# Altium schematic symbol library Schlib_Texas_Instruments.SchLib: 190 symbols (part 1 of 3)
Pins are listed as number, name and electrical type; pins without a type are passive.

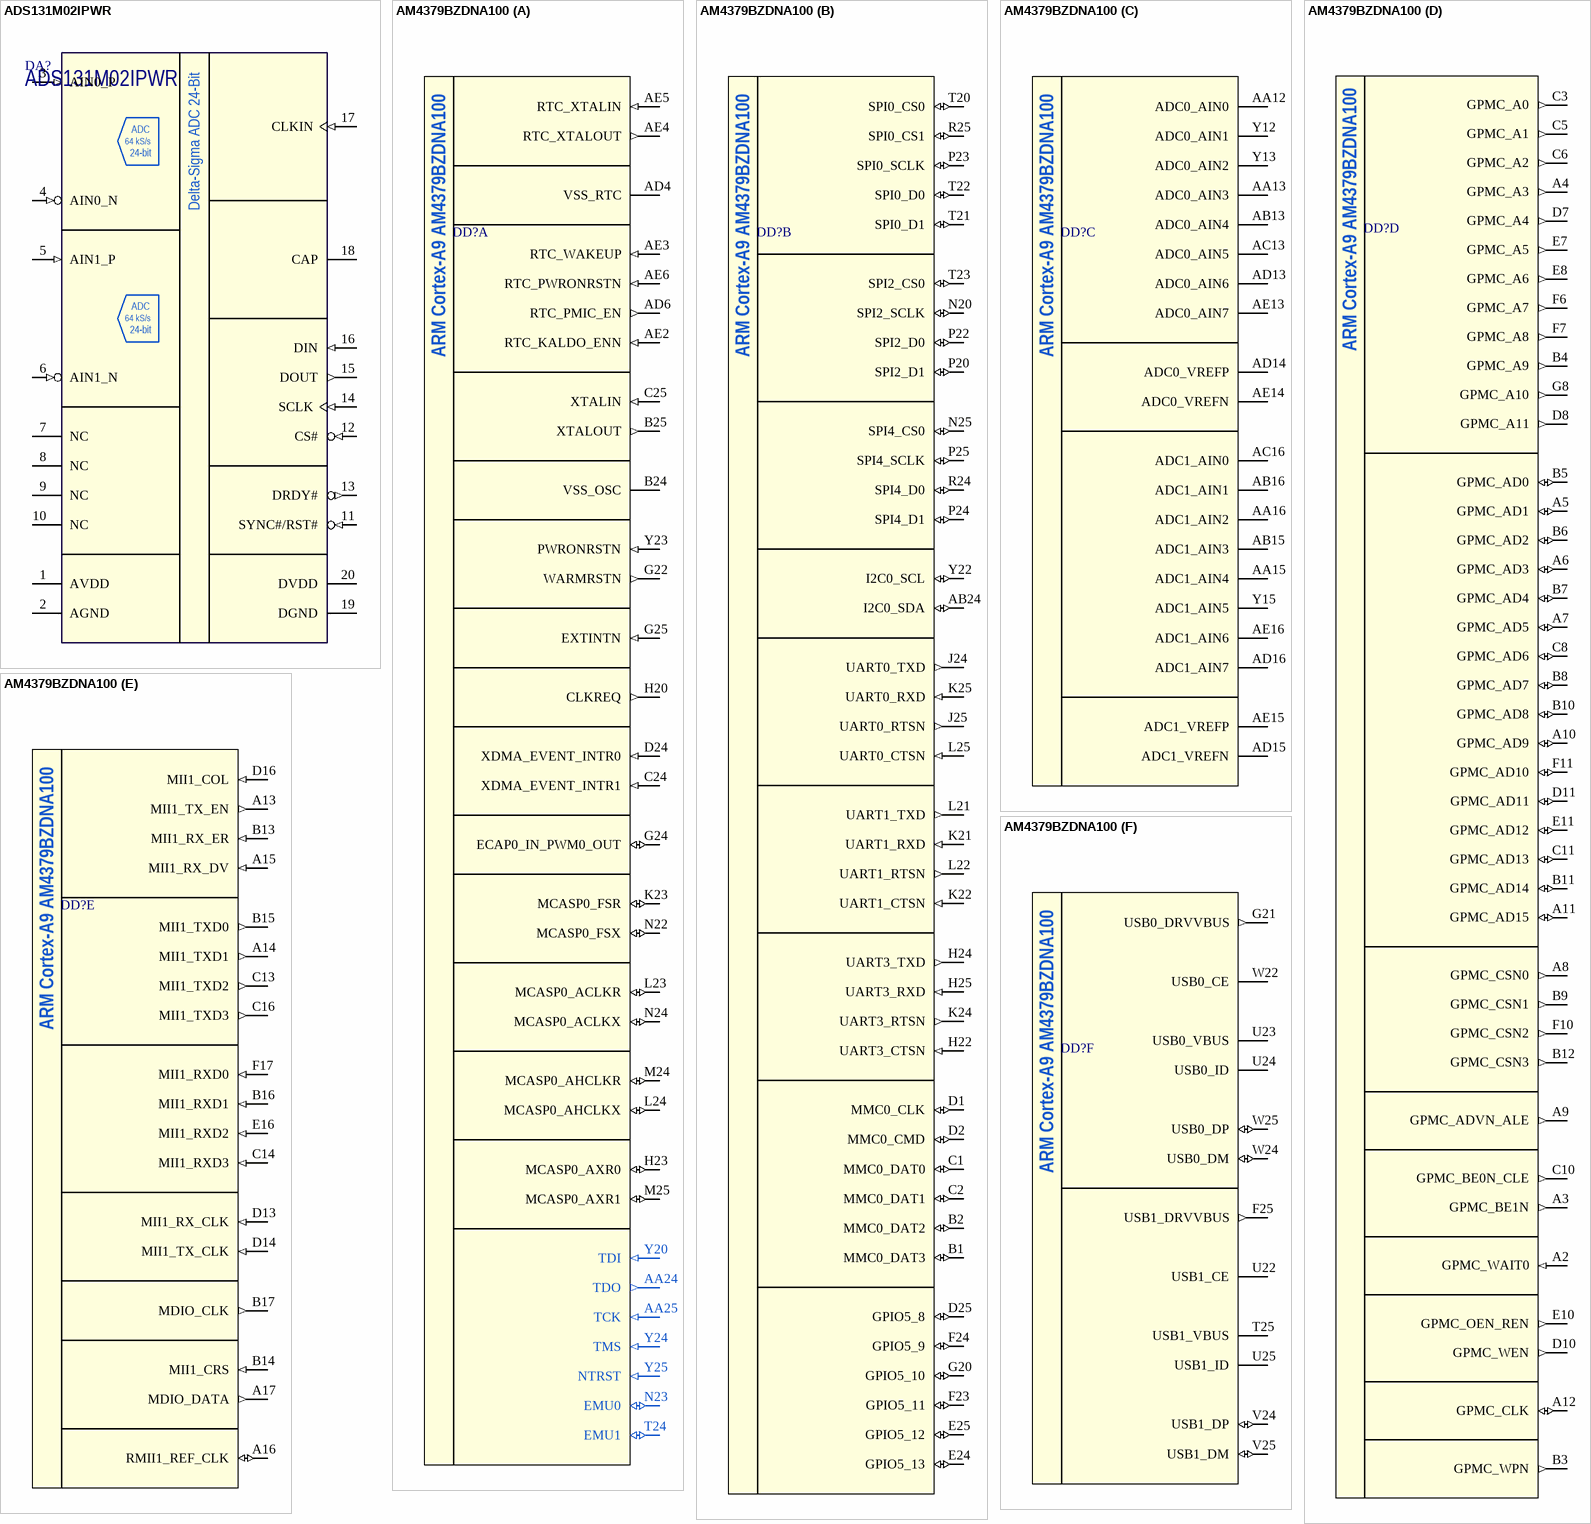
[diagram p0: symbols ADS131M02IPWR to AM4379BZDNA100]

## ADS131M02IPWR
designator DA?
2-Channel, Simultaneously-Sampling, 24-Bit, Delta-Sigma ADC; Manufacturer: Texas Instruments; Part Number: ADS131M02IPWR; Package: TSSOP-20
footprint TSSOP-20(ADS131) (TSOP, 20-Leads, Body 6.50x4.40mm, Pitch 0.65mm, IPC Medium Density)
pins: 1 AVDD (power), 2 AGND (power), 3 AIN0_P (in), 4 AIN0_N (in), 5 AIN1_P (in), 6 AIN1_N (in), 7 NC (hiz), 8 NC (hiz), 9 NC (hiz), 10 NC (hiz), 11 SYNC#/RST# (in), 12 CS# (in), 13 DRDY# (out), 14 SCLK (in), 15 DOUT (out), 16 DIN (in), 17 CLKIN (in), 18 CAP, 19 DGND (power), 20 DVDD (power)
text: ADC; 64 kS/s; Delta-Sigma ADC 24-Bit; 24-bit

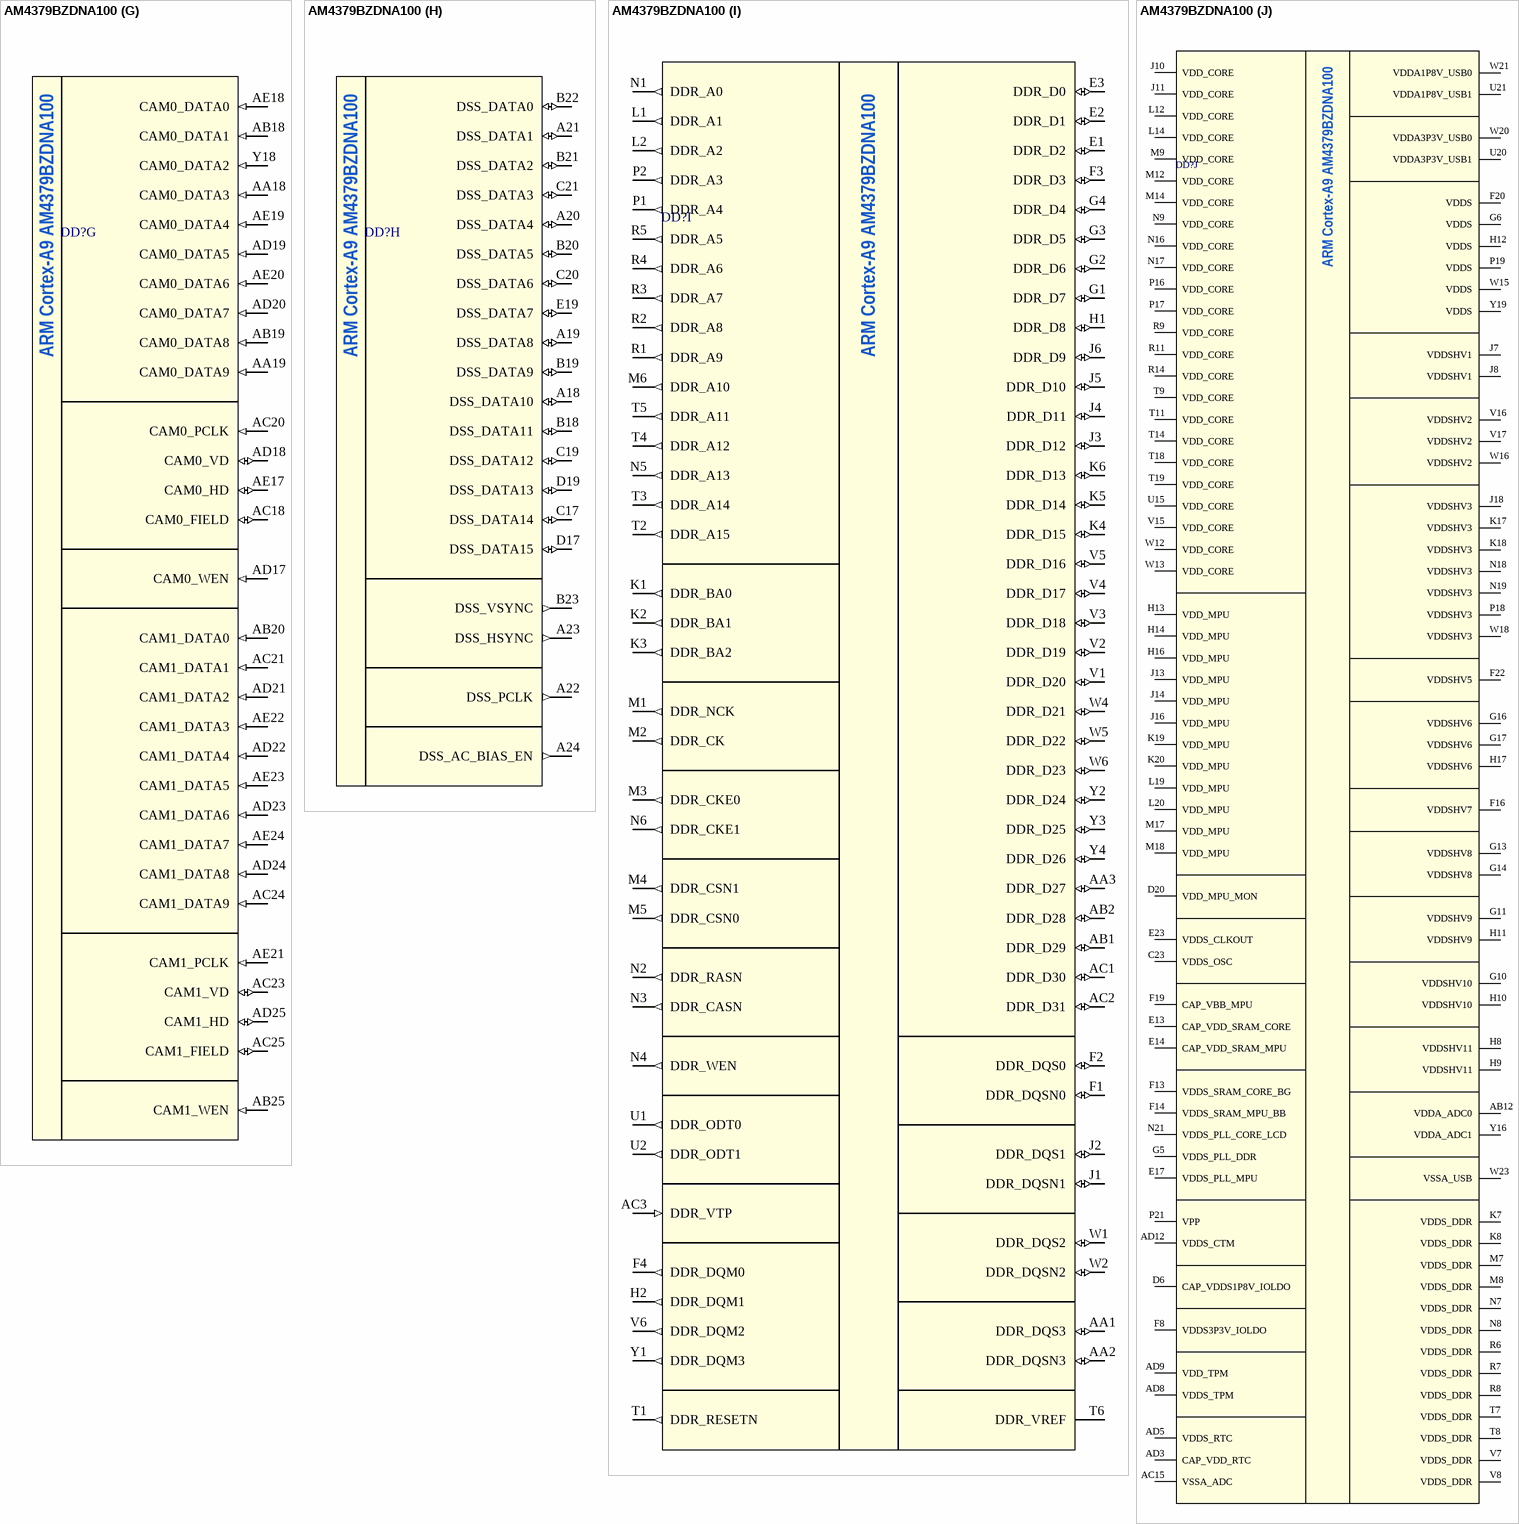
[diagram p1: symbol AM4379BZDNA100]

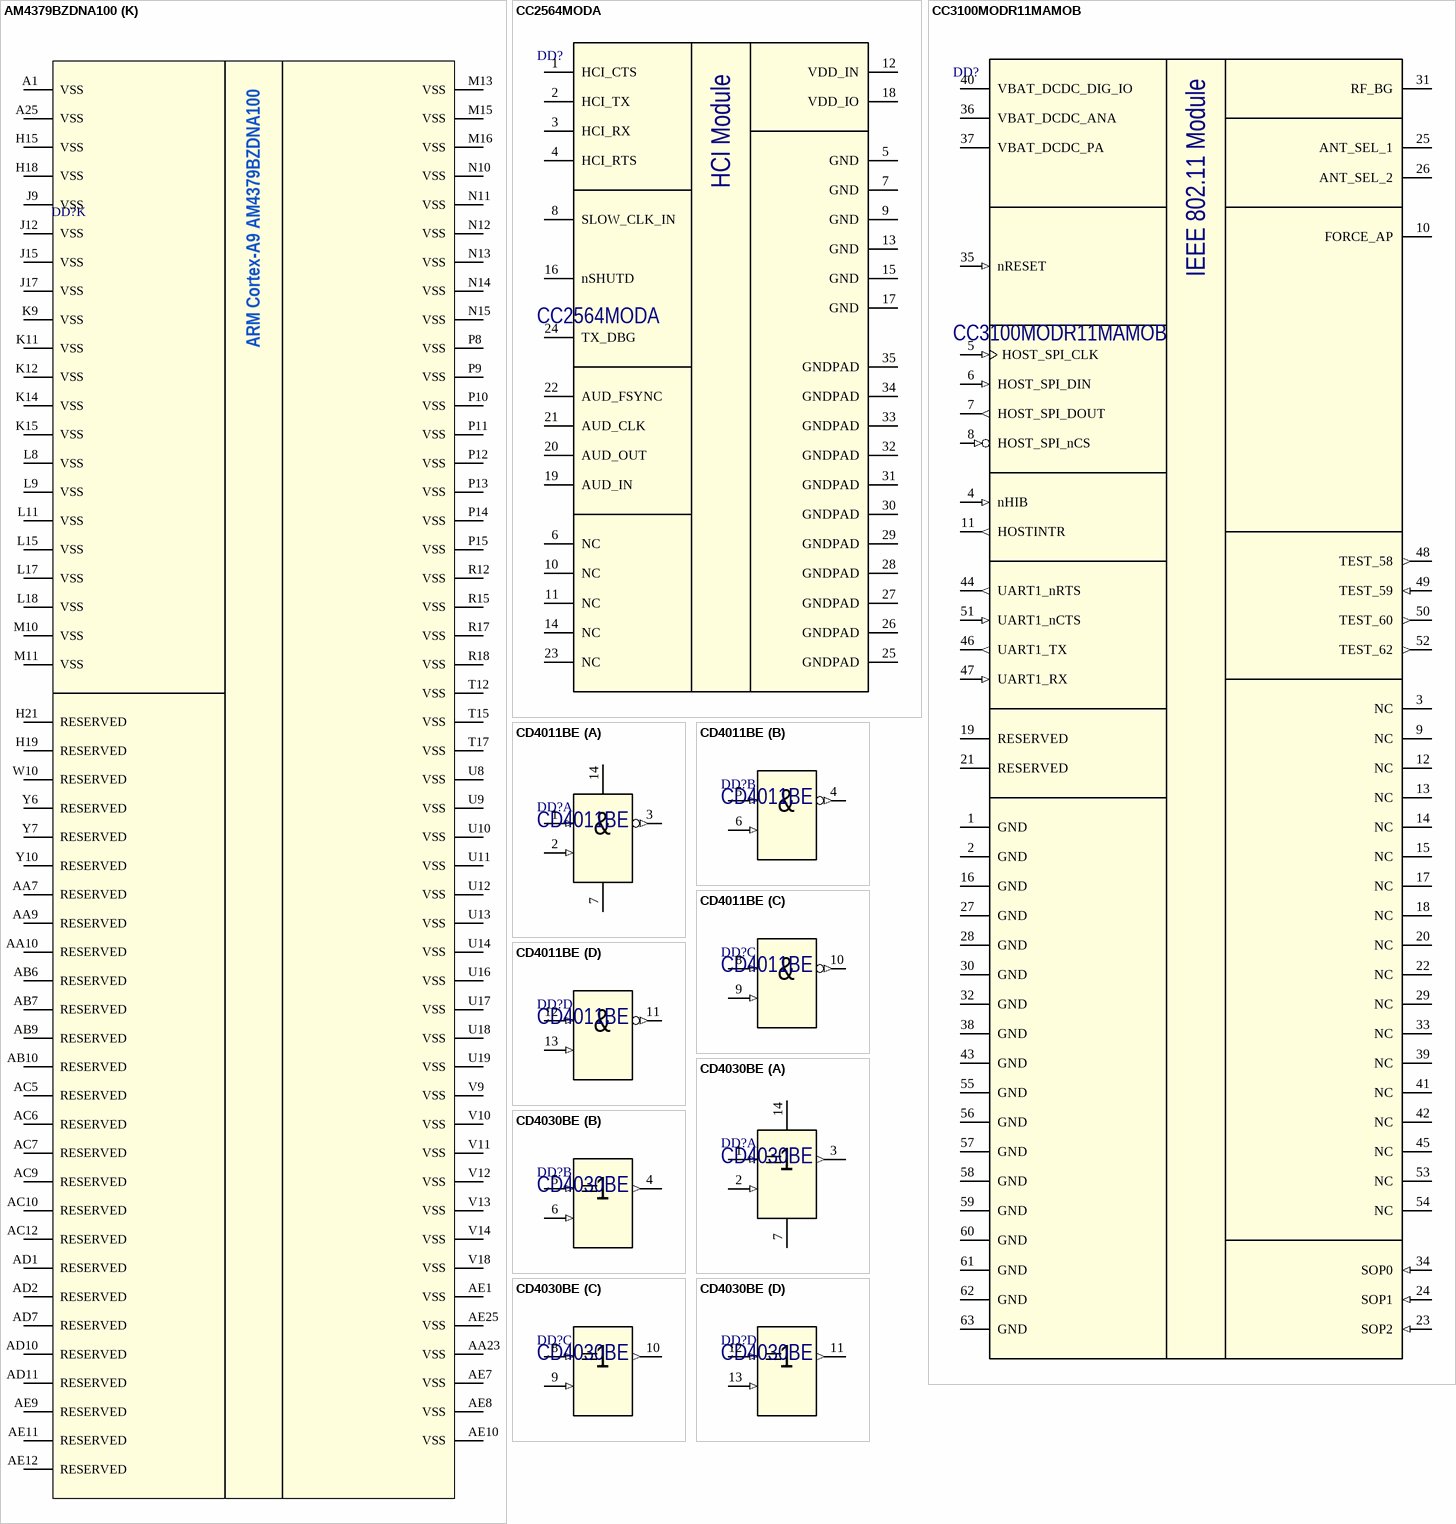
[diagram p2: symbols AM4379BZDNA100 to CD4030BE]

## AM4379BZDNA100
designator DD?
ARM Cortex-A9 Processor Sitara series; Manufacturer: Texas Instruments; Part Number: AM4379BZDNA100; Package: PBGA-491; Author: Sklyarov
footprint PBGA-491 (BGA, 491-Leads, Body 17.00x17.00mmx0.90mm, Pitch 0.65mm)
part A pins: AA24 TDO (out), AA25 TCK (in), AD4 VSS_RTC (power), AD6 RTC_PMIC_EN (out), AE2 RTC_KALDO_ENN (in), AE3 RTC_WAKEUP (in), AE4 RTC_XTALOUT (out), AE5 RTC_XTALIN (in), AE6 RTC_PWRONRSTN (in), B24 VSS_OSC (power), B25 XTALOUT (out), C24 XDMA_EVENT_INTR1 (in), C25 XTALIN (in), D24 XDMA_EVENT_INTR0 (in), G22 WARMRSTN (out), G24 ECAP0_IN_PWM0_OUT (io), G25 EXTINTN (in), H20 CLKREQ (out), H23 MCASP0_AXR0 (io), K23 MCASP0_FSR (io), L23 MCASP0_ACLKR (io), L24 MCASP0_AHCLKX (io), M24 MCASP0_AHCLKR (io), M25 MCASP0_AXR1 (io), N22 MCASP0_FSX (io), N23 EMU0 (io), N24 MCASP0_ACLKX (io), T24 EMU1 (io), Y20 TDI (in), Y23 PWRONRSTN (in), Y24 TMS (in), Y25 NTRST (in)
part B pins: AB24 I2C0_SDA (io), B1 MMC0_DAT3 (io), B2 MMC0_DAT2 (io), C1 MMC0_DAT0 (io), C2 MMC0_DAT1 (io), D1 MMC0_CLK (io), D2 MMC0_CMD (io), D25 GPIO5_8 (io), E24 GPIO5_13 (io), E25 GPIO5_12 (io), F23 GPIO5_11 (io), F24 GPIO5_9 (io), G20 GPIO5_10 (io), H22 UART3_CTSN (in), H24 UART3_TXD (out), H25 UART3_RXD (in), J24 UART0_TXD (out), J25 UART0_RTSN (out), K21 UART1_RXD (in), K22 UART1_CTSN (in), K24 UART3_RTSN (out), K25 UART0_RXD (in), L21 UART1_TXD (out), L22 UART1_RTSN (out), L25 UART0_CTSN (in), N20 SPI2_SCLK (io), N25 SPI4_CS0 (io), P20 SPI2_D1 (io), P22 SPI2_D0 (io), P23 SPI0_SCLK (io), P24 SPI4_D1 (io), P25 SPI4_SCLK (io), R24 SPI4_D0 (io), R25 SPI0_CS1 (io), T20 SPI0_CS0 (io), T21 SPI0_D1 (io), T22 SPI0_D0 (io), T23 SPI2_CS0 (io), Y22 I2C0_SCL (io)
part C pins: AA12 ADC0_AIN0, AA13 ADC0_AIN3, AA15 ADC1_AIN4, AA16 ADC1_AIN2, AB13 ADC0_AIN4, AB15 ADC1_AIN3, AB16 ADC1_AIN1, AC13 ADC0_AIN5, AC16 ADC1_AIN0, AD13 ADC0_AIN6, AD14 ADC0_VREFP, AD15 ADC1_VREFN, AD16 ADC1_AIN7, AE13 ADC0_AIN7, AE14 ADC0_VREFN, AE15 ADC1_VREFP, AE16 ADC1_AIN6, Y12 ADC0_AIN1, Y13 ADC0_AIN2, Y15 ADC1_AIN5
part D pins: A2 GPMC_WAIT0 (in), A3 GPMC_BE1N (out), A4 GPMC_A3 (out), A5 GPMC_AD1 (io), A6 GPMC_AD3 (io), A7 GPMC_AD5 (io), A8 GPMC_CSN0 (out), A9 GPMC_ADVN_ALE (out), A10 GPMC_AD9 (io), A11 GPMC_AD15 (io), A12 GPMC_CLK (io), B3 GPMC_WPN (out), B4 GPMC_A9 (out), B5 GPMC_AD0 (io), B6 GPMC_AD2 (io), B7 GPMC_AD4 (io), B8 GPMC_AD7 (io), B9 GPMC_CSN1 (out), B10 GPMC_AD8 (io), B11 GPMC_AD14 (io), B12 GPMC_CSN3 (out), C3 GPMC_A0 (out), C5 GPMC_A1 (out), C6 GPMC_A2 (out), C8 GPMC_AD6 (io), C10 GPMC_BE0N_CLE (out), C11 GPMC_AD13 (io), D7 GPMC_A4 (out), D8 GPMC_A11 (out), D10 GPMC_WEN (out), D11 GPMC_AD11 (io), E7 GPMC_A5 (out), E8 GPMC_A6 (out), E10 GPMC_OEN_REN (out), E11 GPMC_AD12 (io), F6 GPMC_A7 (out), F7 GPMC_A8 (out), F10 GPMC_CSN2 (out), F11 GPMC_AD10 (io), G8 GPMC_A10 (out)
part E pins: A13 MII1_TX_EN (out), A14 MII1_TXD1 (out), A15 MII1_RX_DV (in), A16 RMII1_REF_CLK (io), A17 MDIO_DATA (out), B13 MII1_RX_ER (in), B14 MII1_CRS (in), B15 MII1_TXD0 (out), B16 MII1_RXD1 (in), B17 MDIO_CLK (out), C13 MII1_TXD2 (out), C14 MII1_RXD3 (in), C16 MII1_TXD3 (out), D13 MII1_RX_CLK (in), D14 MII1_TX_CLK (in), D16 MII1_COL (in), E16 MII1_RXD2 (in), F17 MII1_RXD0 (in)
part F pins: F25 USB1_DRVVBUS (out), G21 USB0_DRVVBUS (out), T25 USB1_VBUS (power), U22 USB1_CE, U23 USB0_VBUS, U24 USB0_ID, U25 USB1_ID, V24 USB1_DP (io), V25 USB1_DM (io), W22 USB0_CE, W24 USB0_DM (io), W25 USB0_DP (io)
part G pins: AA18 CAM0_DATA3 (in), AA19 CAM0_DATA9 (in), AB18 CAM0_DATA1 (in), AB19 CAM0_DATA8 (in), AB20 CAM1_DATA0 (in), AB25 CAM1_WEN (in), AC18 CAM0_FIELD (io), AC20 CAM0_PCLK (in), AC21 CAM1_DATA1 (in), AC23 CAM1_VD (io), AC24 CAM1_DATA9 (in), AC25 CAM1_FIELD (io), AD17 CAM0_WEN (in), AD18 CAM0_VD (io), AD19 CAM0_DATA5 (in), AD20 CAM0_DATA7 (in), AD21 CAM1_DATA2 (in), AD22 CAM1_DATA4 (in), AD23 CAM1_DATA6 (in), AD24 CAM1_DATA8 (in), AD25 CAM1_HD (io), AE17 CAM0_HD (io), AE18 CAM0_DATA0 (in), AE19 CAM0_DATA4 (in), AE20 CAM0_DATA6 (in), AE21 CAM1_PCLK (in), AE22 CAM1_DATA3 (in), AE23 CAM1_DATA5 (in), AE24 CAM1_DATA7 (in), Y18 CAM0_DATA2 (in)
part H pins: A18 DSS_DATA10 (io), A19 DSS_DATA8 (io), A20 DSS_DATA4 (io), A21 DSS_DATA1 (io), A22 DSS_PCLK (out), A23 DSS_HSYNC (out), A24 DSS_AC_BIAS_EN (out), B18 DSS_DATA11 (io), B19 DSS_DATA9 (io), B20 DSS_DATA5 (io), B21 DSS_DATA2 (io), B22 DSS_DATA0 (io), B23 DSS_VSYNC (out), C17 DSS_DATA14 (io), C19 DSS_DATA12 (io), C20 DSS_DATA6 (io), C21 DSS_DATA3 (io), D17 DSS_DATA15 (io), D19 DSS_DATA13 (io), E19 DSS_DATA7 (io)
part I pins: AA1 DDR_DQS3 (io), AA2 DDR_DQSN3 (io), AA3 DDR_D27 (io), AB1 DDR_D29 (io), AB2 DDR_D28 (io), AC1 DDR_D30 (io), AC2 DDR_D31 (io), AC3 DDR_VTP (in), E1 DDR_D2 (io), E2 DDR_D1 (io), E3 DDR_D0 (io), F1 DDR_DQSN0 (io), F2 DDR_DQS0 (io), F3 DDR_D3 (io), F4 DDR_DQM0 (out), G1 DDR_D7 (io), G2 DDR_D6 (io), G3 DDR_D5 (io), G4 DDR_D4 (io), H1 DDR_D8 (io), H2 DDR_DQM1 (out), J1 DDR_DQSN1 (io), J2 DDR_DQS1 (io), J3 DDR_D12 (io), J4 DDR_D11 (io), J5 DDR_D10 (io), J6 DDR_D9 (io), K1 DDR_BA0 (out), K2 DDR_BA1 (out), K3 DDR_BA2 (out), K4 DDR_D15 (io), K5 DDR_D14 (io), K6 DDR_D13 (io), L1 DDR_A1 (out), L2 DDR_A2 (out), M1 DDR_NCK (out), M2 DDR_CK (out), M3 DDR_CKE0 (out), M4 DDR_CSN1 (out), M5 DDR_CSN0 (out), M6 DDR_A10 (out), N1 DDR_A0 (out), N2 DDR_RASN (out), N3 DDR_CASN (out), N4 DDR_WEN (out), N5 DDR_A13 (out), N6 DDR_CKE1 (out), P1 DDR_A4 (out), P2 DDR_A3 (out), R1 DDR_A9 (out), R2 DDR_A8 (out), R3 DDR_A7 (out), R4 DDR_A6 (out), R5 DDR_A5 (out), T1 DDR_RESETN (out), T2 DDR_A15 (out), T3 DDR_A14 (out), T4 DDR_A12 (out), T5 DDR_A11 (out), T6 DDR_VREF, U1 DDR_ODT0 (out), U2 DDR_ODT1 (out), V1 DDR_D20 (io), V2 DDR_D19 (io), V3 DDR_D18 (io), V4 DDR_D17 (io), V5 DDR_D16 (io), V6 DDR_DQM2 (out), W1 DDR_DQS2 (io), W2 DDR_DQSN2 (io), W4 DDR_D21 (io), W5 DDR_D22 (io), W6 DDR_D23 (io), Y1 DDR_DQM3 (out), Y2 DDR_D24 (io), Y3 DDR_D25 (io), Y4 DDR_D26 (io)
part J pins: AB12 VDDA_ADC0 (power), AC15 VSSA_ADC (power), AD3 CAP_VDD_RTC (power), AD5 VDDS_RTC (power), AD8 VDDS_TPM (power), AD9 VDD_TPM (power), AD12 VDDS_CTM (power), C23 VDDS_OSC (power), D6 CAP_VDDS1P8V_IOLDO, D20 VDD_MPU_MON (power), E13 CAP_VDD_SRAM_CORE, E14 CAP_VDD_SRAM_MPU, E17 VDDS_PLL_MPU (power), E23 VDDS_CLKOUT (power), F8 VDDS3P3V_IOLDO (power), F13 VDDS_SRAM_CORE_BG (power), F14 VDDS_SRAM_MPU_BB (power), F16 VDDSHV7 (power), F19 CAP_VBB_MPU, F20 VDDS (power), F22 VDDSHV5 (power), G5 VDDS_PLL_DDR (power), G6 VDDS (power), G10 VDDSHV10 (power), G11 VDDSHV9 (power), G13 VDDSHV8 (power), G14 VDDSHV8 (power), G16 VDDSHV6 (power), G17 VDDSHV6 (power), H8 VDDSHV11 (power), H9 VDDSHV11 (power), H10 VDDSHV10 (power), H11 VDDSHV9 (power), H12 VDDS (power), H13 VDD_MPU (power), H14 VDD_MPU (power), H16 VDD_MPU (power), H17 VDDSHV6 (power), J7 VDDSHV1 (power), J8 VDDSHV1 (power), J10 VDD_CORE (power), J11 VDD_CORE (power), J13 VDD_MPU (power), J14 VDD_MPU (power), J16 VDD_MPU (power), J18 VDDSHV3 (power), K7 VDDS_DDR (power), K8 VDDS_DDR (power), K17 VDDSHV3 (power), K18 VDDSHV3 (power), K19 VDD_MPU (power), K20 VDD_MPU (power), L12 VDD_CORE (power), L14 VDD_CORE (power), L19 VDD_MPU (power), L20 VDD_MPU (power), M7 VDDS_DDR (power), M8 VDDS_DDR (power), M9 VDD_CORE (power), M12 VDD_CORE (power), M14 VDD_CORE (power), M17 VDD_MPU (power), M18 VDD_MPU (power), N7 VDDS_DDR (power), N8 VDDS_DDR (power), N9 VDD_CORE (power), N16 VDD_CORE (power), N17 VDD_CORE (power), N18 VDDSHV3 (power), N19 VDDSHV3 (power), N21 VDDS_PLL_CORE_LCD (power), P16 VDD_CORE (power), P17 VDD_CORE (power), P18 VDDSHV3 (power), P19 VDDS (power), P21 VPP (power), R6 VDDS_DDR (power), R7 VDDS_DDR (power), R8 VDDS_DDR (power), R9 VDD_CORE (power), R11 VDD_CORE (power), R14 VDD_CORE (power), T7 VDDS_DDR (power), T8 VDDS_DDR (power), T9 VDD_CORE (power), T11 VDD_CORE (power), T14 VDD_CORE (power), T18 VDD_CORE (power), T19 VDD_CORE (power), U15 VDD_CORE (power), U20 VDDA3P3V_USB1 (power), U21 VDDA1P8V_USB1 (power), V7 VDDS_DDR (power), V8 VDDS_DDR (power), V15 VDD_CORE (power), V16 VDDSHV2 (power), V17 VDDSHV2 (power), W12 VDD_CORE (power), W13 VDD_CORE (power), W15 VDDS (power), W16 VDDSHV2 (power), W18 VDDSHV3 (power), W20 VDDA3P3V_USB0 (power), W21 VDDA1P8V_USB0 (power), W23 VSSA_USB (power), Y16 VDDA_ADC1 (power), Y19 VDDS (power)
part K pins: A1 VSS (power), A25 VSS (power), AA7 RESERVED (hiz), AA9 RESERVED (hiz), AA10 RESERVED (hiz), AA23 VSS (power), AB6 RESERVED (hiz), AB7 RESERVED (hiz), AB9 RESERVED (hiz), AB10 RESERVED (hiz), AC5 RESERVED (hiz), AC6 RESERVED (hiz), AC7 RESERVED (hiz), AC9 RESERVED (hiz), AC10 RESERVED (hiz), AC12 RESERVED (hiz), AD1 RESERVED (hiz), AD2 RESERVED (hiz), AD7 RESERVED (hiz), AD10 RESERVED (hiz), AD11 RESERVED (hiz), AE1 VSS (power), AE7 VSS (power), AE8 VSS (power), AE9 RESERVED (hiz), AE10 VSS (power), AE11 RESERVED (hiz), AE12 RESERVED (hiz), AE25 VSS (power), H15 VSS (power), H18 VSS (power), H19 RESERVED (hiz), H21 RESERVED (hiz), J9 VSS (power), J12 VSS (power), J15 VSS (power), J17 VSS (power), K9 VSS (power), K11 VSS (power), K12 VSS (power), K14 VSS (power), K15 VSS (power), L8 VSS (power), L9 VSS (power), L11 VSS (power), L15 VSS (power), L17 VSS (power), L18 VSS (power), M10 VSS (power), M11 VSS (power), M13 VSS (power), M15 VSS (power), M16 VSS (power), N10 VSS (power), N11 VSS (power), N12 VSS (power), N13 VSS (power), N14 VSS (power), N15 VSS (power), P8 VSS (power), P9 VSS (power), P10 VSS (power), P11 VSS (power), P12 VSS (power), P13 VSS (power), P14 VSS (power), P15 VSS (power), R12 VSS (power), R15 VSS (power), R17 VSS (power), R18 VSS (power), T12 VSS (power), T15 VSS (power), T17 VSS (power), U8 VSS (power), U9 VSS (power), U10 VSS (power), U11 VSS (power), U12 VSS (power), U13 VSS (power), U14 VSS (power), U16 VSS (power), U17 VSS (power), U18 VSS (power), U19 VSS (power), V9 VSS (power), V10 VSS (power), V11 VSS (power), V12 VSS (power), V13 VSS (power), V14 VSS (power), V18 VSS (power), W10 RESERVED (hiz), Y6 RESERVED (hiz), Y7 RESERVED (hiz), Y10 RESERVED (hiz)
part A text: ARM Cortex-A9 AM4379BZDNA100
part B text: ARM Cortex-A9 AM4379BZDNA100
part C text: ARM Cortex-A9 AM4379BZDNA100
part D text: ARM Cortex-A9 AM4379BZDNA100
part E text: ARM Cortex-A9 AM4379BZDNA100
part F text: ARM Cortex-A9 AM4379BZDNA100
part G text: ARM Cortex-A9 AM4379BZDNA100
part H text: ARM Cortex-A9 AM4379BZDNA100
part I text: ARM Cortex-A9 AM4379BZDNA100
part J text: ARM Cortex-A9 AM4379BZDNA100
part K text: ARM Cortex-A9 AM4379BZDNA100

## CC2564MODA
designator DD?
Bluetooth Host Controller Interface (HCI) Module; Manufacturer: Texas Instruments; Part Number: CC2564MODA; Package: MOG0035A
footprint MOG0035A
pins: 1 HCI_CTS, 2 HCI_TX, 3 HCI_RX, 4 HCI_RTS, 5 GND, 6 NC, 7 GND, 8 SLOW_CLK_IN, 9 GND, 10 NC, 11 NC, 12 VDD_IN, 13 GND, 14 NC, 15 GND, 16 nSHUTD, 17 GND, 18 VDD_IO, 19 AUD_IN, 20 AUD_OUT, 21 AUD_CLK, 22 AUD_FSYNC, 23 NC, 24 TX_DBG, 25 GNDPAD, 26 GNDPAD, 27 GNDPAD, 28 GNDPAD, 29 GNDPAD, 30 GNDPAD, 31 GNDPAD, 32 GNDPAD, 33 GNDPAD, 34 GNDPAD, 35 GNDPAD
text: HCI Module

## CC3100MODR11MAMOB
designator DD?
Wi-Fi network processor module; Manufacturer: Texas Instruments; Part Number: CC3100MODR11MAMOB; Package: MOB0063A
footprint MOB0063A
pins: 1 GND (power), 2 GND (power), 3 NC (hiz), 4 nHIB (in), 5 HOST_SPI_CLK (in), 6 HOST_SPI_DIN (in), 7 HOST_SPI_DOUT (out), 8 HOST_SPI_nCS (in), 9 NC (hiz), 10 FORCE_AP, 11 HOSTINTR (out), 12 NC (hiz), 13 NC (hiz), 14 NC (hiz), 15 NC (hiz), 16 GND (power), 17 NC (hiz), 18 NC (hiz), 19 RESERVED (hiz), 20 NC (hiz), 21 RESERVED (hiz), 22 NC (hiz), 23 SOP2 (in), 24 SOP1 (in), 25 ANT_SEL_1, 26 ANT_SEL_2, 27 GND (power), 28 GND (power), 29 NC (hiz), 30 GND (power), 31 RF_BG, 32 GND (power), 33 NC (hiz), 34 SOP0 (in), 35 nRESET (in), 36 VBAT_DCDC_ANA (power), 37 VBAT_DCDC_PA (power), 38 GND (power), 39 NC (hiz), 40 VBAT_DCDC_DIG_IO (power), 41 NC (hiz), 42 NC (hiz), 43 GND (power), 44 UART1_nRTS (out), 45 NC (hiz), 46 UART1_TX (out), 47 UART1_RX (in), 48 TEST_58 (out), 49 TEST_59 (in), 50 TEST_60 (out), 51 UART1_nCTS (in), 52 TEST_62 (out), 53 NC (hiz), 54 NC (hiz), 55 GND (power), 56 GND (power), 57 GND (power), 58 GND (power), 59 GND (power), 60 GND (power), 61 GND (power), 62 GND (power), 63 GND (power)
text: IEEE 802.11 Module

## CD4011BE
designator DD?
Quad 2-Input NAND Gate; Manufacturer: Texas Instruments; Part Number: CD4011BE; Package: DIP-14
footprint DIP-14P-M02 (Plastic DIP, 14 pin, lead pitch 2.54mm (0.1"), row spacing 7.62mm (0.3"))
part A pins: 1 A0 (in), 2 B0 (in), 3 Y0 (out), 7 GND (power), 14 VCC (power)
part B pins: 4 Y1 (out), 5 A1 (in), 6 B1 (in)
part C pins: 8 A2 (in), 9 B2 (in), 10 Y2 (out)
part D pins: 11 Y3 (out), 12 A3 (in), 13 B3 (in)
part A text: &
part B text: &
part C text: &
part D text: &

## CD4030BE
designator DD?
Quad XOR-Gate; Manufacturer: Texas Instruments; Part Number: CD4030BE; Package: DIP-14
footprint DIP-14P-M02 (Plastic DIP, 14 pin, lead pitch 2.54mm (0.1"), row spacing 7.62mm (0.3"))
part A pins: 1 A0 (in), 2 B0 (in), 3 Y0 (out), 7 GND (power), 14 VCC (power)
part B pins: 4 Y1 (out), 5 A1 (in), 6 B1 (in)
part C pins: 8 A2 (in), 9 B2 (in), 10 Y2 (out)
part D pins: 11 Y3 (out), 12 A3 (in), 13 B3 (in)

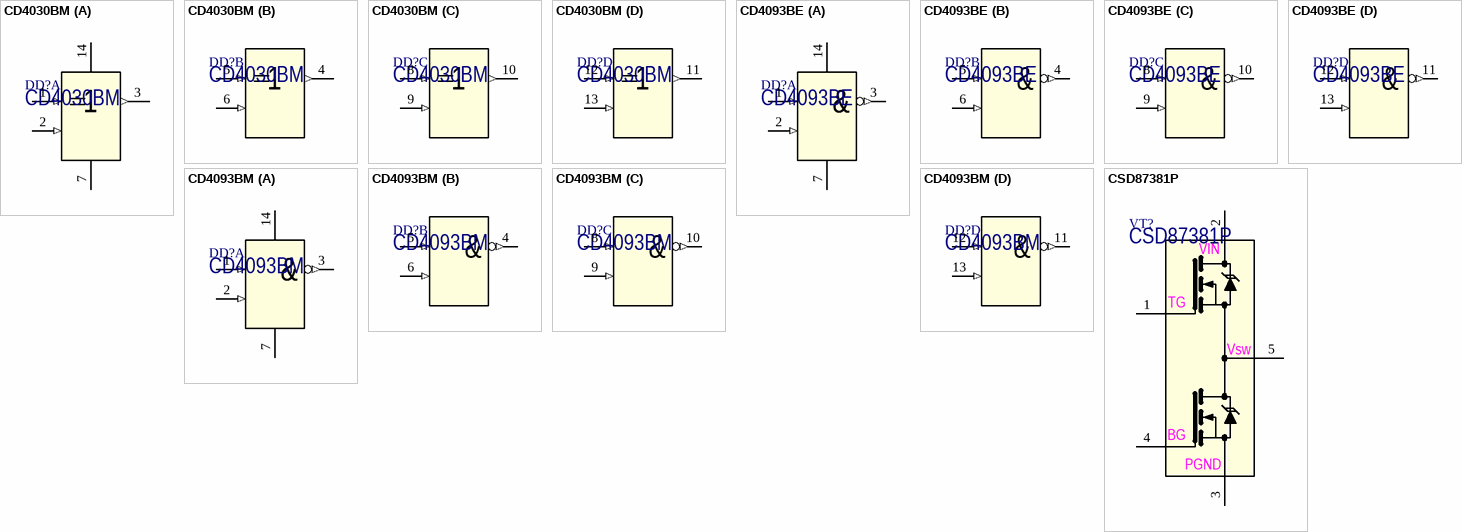
[diagram p3: symbols CD4030BM to CSD87381P]

## CD4030BM
designator DD?
Quad XOR-Gate; Manufacturer: Texas Instruments; Part Number: CD4030BM; Package: SOIC-14
footprint SOIC-14 (package SOIC-14, 150 mil)
part A pins: 1 A0 (in), 2 B0 (in), 3 Y0 (out), 7 GND (power), 14 VCC (power)
part B pins: 4 Y1 (out), 5 A1 (in), 6 B1 (in)
part C pins: 8 A2 (in), 9 B2 (in), 10 Y2 (out)
part D pins: 11 Y3 (out), 12 A3 (in), 13 B3 (in)

## CD4093BE
designator DD?
Quad 2-Input NAND Gate Schmitt Triggers; Manufacturer: Texas Instruments; Part Number: CD4093BE; Package: DIP-14
footprint DIP-14P-M02 (Plastic DIP, 14 pin, lead pitch 2.54mm (0.1"), row spacing 7.62mm (0.3"))
part A pins: 1 A0 (in), 2 B0 (in), 3 Y0 (out), 7 GND (power), 14 VCC (power)
part B pins: 4 Y1 (out), 5 A1 (in), 6 B1 (in)
part C pins: 8 A2 (in), 9 B2 (in), 10 Y2 (out)
part D pins: 11 Y3 (out), 12 A3 (in), 13 B3 (in)
part A text: &
part B text: &
part C text: &
part D text: &

## CD4093BM
designator DD?
Quad 2-Input NAND Gate Schmitt Triggers; Manufacturer: Texas Instruments; Part Number: CD4093BM; Package: SOIC-14
footprint SOIC-14 (package SOIC-14, 150 mil)
part A pins: 1 A0 (in), 2 B0 (in), 3 Y0 (out), 7 GND (power), 14 VCC (power)
part B pins: 4 Y1 (out), 5 A1 (in), 6 B1 (in)
part C pins: 8 A2 (in), 9 B2 (in), 10 Y2 (out)
part D pins: 11 Y3 (out), 12 A3 (in), 13 B3 (in)
part A text: &
part B text: &
part C text: &
part D text: &

## CSD87381P
designator VT?
Synchronous Buck NexFET™ Power Block II; Manufacturer: Texas Instruments; Part Number: CSD87381P; Package: PowerTab
footprint R-PTAB-X5 (Case style R-PTAB-X5 for CSD87381P)
pins: 1 TG, 2 VIN, 3 PGND, 4 BG, 5 VSW
text: Vsw

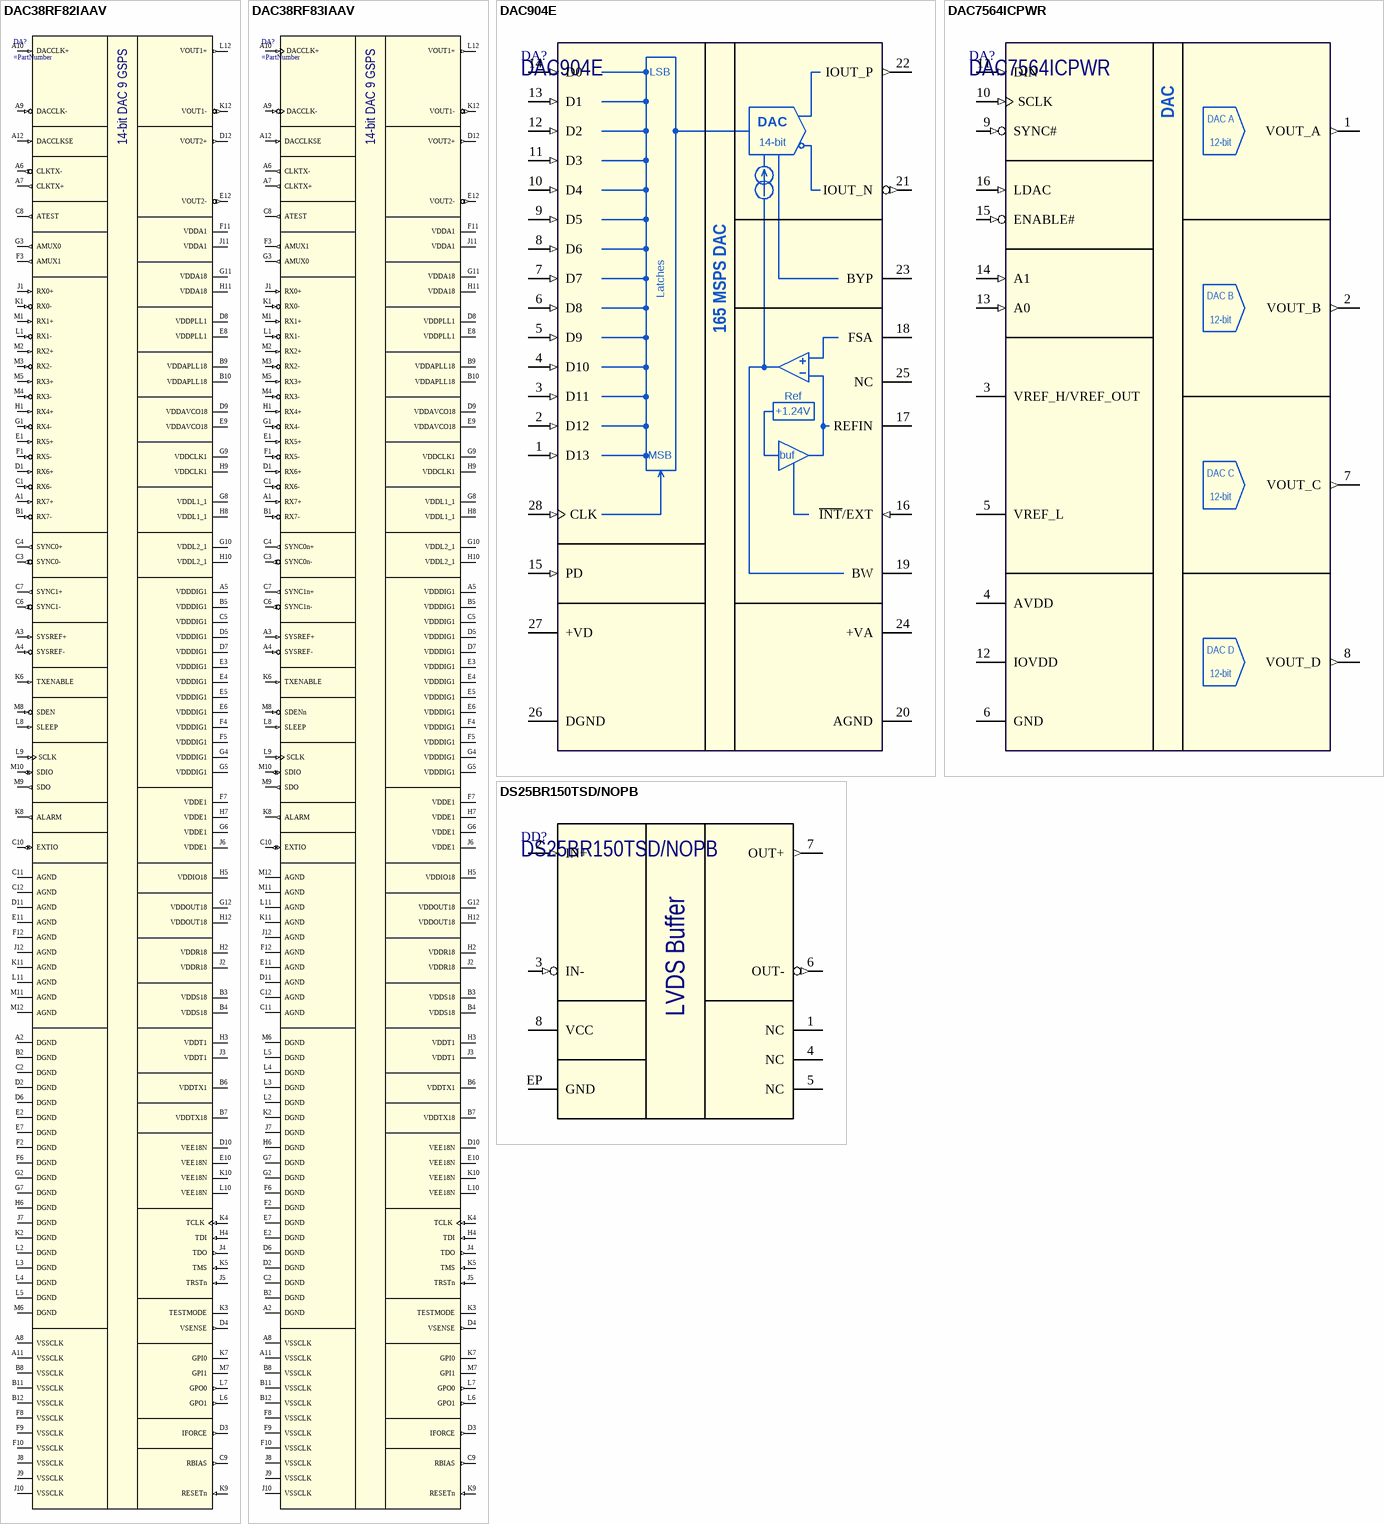
[diagram p4: symbols DAC38RF82IAAV to DS25BR150TSD/NOPB]

## DAC38RF82IAAV
designator DA?
Dual-Channel 9 GSPS 14-bit DAC; Part Number: DAC38RF82IAAV; Manufacturer: Texas Instruments; Package: BGA-144
footprint FCBGA-144 (FCBGA-144 Package with 0.8mm pitch (use in DAC38RFxx))
pins: A1 RX7+ (in), A2 DGND (power), A3 SYSREF+ (in), A4 SYSREF- (in), A5 VDDDIG1 (power), A6 CLKTX- (out), A7 CLKTX+ (out), A8 VSSCLK (power), A9 DACCLK- (in), A10 DACCLK+ (in), A11 VSSCLK (power), A12 DACCLKSE (in), B1 RX7- (in), B2 DGND (power), B3 VDDS18 (power), B4 VDDS18 (power), B5 VDDDIG1 (power), B6 VDDTX1 (power), B7 VDDTX18 (power), B8 VSSCLK (power), B9 VDDAPLL18 (power), B10 VDDAPLL18 (power), B11 VSSCLK (power), B12 VSSCLK (power), C1 RX6- (in), C2 DGND (power), C3 SYNC0- (out), C4 SYNC0+ (out), C5 VDDDIG1 (power), C6 SYNC1- (out), C7 SYNC1+ (out), C8 ATEST (out), C9 RBIAS (out), C10 EXTIO (io), C11 AGND (power), C12 AGND (power), D1 RX6+ (in), D2 DGND (power), D3 IFORCE (out), D4 VSENSE (out), D5 VDDDIG1 (power), D6 DGND (power), D7 VDDDIG1 (power), D8 VDDPLL1 (power), D9 VDDAVCO18 (power), D10 VEE18N (power), D11 AGND (power), D12 VOUT2+ (out), E1 RX5+ (in), E2 DGND (power), E3 VDDDIG1 (power), E4 VDDDIG1 (power), E5 VDDDIG1 (power), E6 VDDDIG1 (power), E7 DGND (power), E8 VDDPLL1 (power), E9 VDDAVCO18 (power), E10 VEE18N (power), E11 AGND (power), E12 VOUT2- (out), F1 RX5- (in), F2 DGND (power), F3 AMUX1 (out), F4 VDDDIG1 (power), F5 VDDDIG1 (power), F6 DGND (power), F7 VDDE1 (power), F8 VSSCLK (power), F9 VSSCLK (power), F10 VSSCLK (power), F11 VDDA1 (power), F12 AGND (power), G1 RX4- (in), G2 DGND (power), G3 AMUX0 (out), G4 VDDDIG1 (power), G5 VDDDIG1 (power), G6 VDDE1 (power), G7 DGND (power), G8 VDDL1_1 (power), G9 VDDCLK1 (power), G10 VDDL2_1 (power), G11 VDDA18 (power), G12 VDDOUT18 (power), H1 RX4+ (in), H2 VDDR18 (power), H3 VDDT1 (power), H4 TDI (in), H5 VDDIO18 (power), H6 DGND (power), H7 VDDE1 (power), H8 VDDL1_1 (power), H9 VDDCLK1 (power), H10 VDDL2_1 (power), H11 VDDA18 (power), H12 VDDOUT18 (power), J1 RX0+ (in), J2 VDDR18 (power), J3 VDDT1 (power), J4 TDO (out), J5 TRSTn (in), J6 VDDE1 (power), J7 DGND (power), J8 VSSCLK (power), J9 VSSCLK (power), J10 VSSCLK (power), J11 VDDA1 (power), J12 AGND (power), K1 RX0- (in), K2 DGND (power), K3 TESTMODE, K4 TCLK (in), K5 TMS (in), K6 TXENABLE (in), K7 GPI0, K8 ALARM (out), K9 RESETn (in), K10 VEE18N (power), K11 AGND (power), K12 VOUT1- (out), L1 RX1- (in), L2 DGND (power), L3 DGND (power), L4 DGND (power), L5 DGND (power), L6 GPO1 (out), L7 GPO0 (out), L8 SLEEP (in), L9 SCLK (in), L10 VEE18N (power), L11 AGND (power), L12 VOUT1+ (out), M1 RX1+ (in), M2 RX2+ (in), M3 RX2- (in), M4 RX3- (in), M5 RX3+ (in), M6 DGND (power), M7 GPI1, M8 SDEN (in), M9 SDO (out), M10 SDIO (io), M11 AGND (power), M12 AGND (power)
text: 14-bit DAC 9 GSPS

## DAC38RF83IAAV
designator DA?
Dual-Channel 9 GSPS 14-bit DAC; Part Number: DAC38RF83IAAV; Manufacturer: Texas Instruments; Package: BGA-144
footprint FCBGA-144 (FCBGA-144 Package with 0.8mm pitch (use in DAC38RFxx))
pins: A1 RX7+ (in), A2 DGND (power), A3 SYSREF+ (in), A4 SYSREF- (in), A5 VDDDIG1 (power), A6 CLKTX- (out), A7 CLKTX+ (out), A8 VSSCLK (power), A9 DACCLK- (in), A10 DACCLK+ (in), A11 VSSCLK (power), A12 DACCLKSE (in), B1 RX7- (in), B2 DGND (power), B3 VDDS18 (power), B4 VDDS18 (power), B5 VDDDIG1 (power), B6 VDDTX1 (power), B7 VDDTX18 (power), B8 VSSCLK (power), B9 VDDAPLL18 (power), B10 VDDAPLL18 (power), B11 VSSCLK (power), B12 VSSCLK (power), C1 RX6- (in), C2 DGND (power), C3 SYNC0n- (out), C4 SYNC0n+ (out), C5 VDDDIG1 (power), C6 SYNC1n- (out), C7 SYNC1n+ (out), C8 ATEST (out), C9 RBIAS (out), C10 EXTIO (io), C11 AGND (power), C12 AGND (power), D1 RX6+ (in), D2 DGND (power), D3 IFORCE (out), D4 VSENSE (out), D5 VDDDIG1 (power), D6 DGND (power), D7 VDDDIG1 (power), D8 VDDPLL1 (power), D9 VDDAVCO18 (power), D10 VEE18N (power), D11 AGND (power), D12 VOUT2+ (out), E1 RX5+ (in), E2 DGND (power), E3 VDDDIG1 (power), E4 VDDDIG1 (power), E5 VDDDIG1 (power), E6 VDDDIG1 (power), E7 DGND (power), E8 VDDPLL1 (power), E9 VDDAVCO18 (power), E10 VEE18N (power), E11 AGND (power), E12 VOUT2- (out), F1 RX5- (in), F2 DGND (power), F3 AMUX1 (out), F4 VDDDIG1 (power), F5 VDDDIG1 (power), F6 DGND (power), F7 VDDE1 (power), F8 VSSCLK (power), F9 VSSCLK (power), F10 VSSCLK (power), F11 VDDA1 (power), F12 AGND (power), G1 RX4- (in), G2 DGND (power), G3 AMUX0 (out), G4 VDDDIG1 (power), G5 VDDDIG1 (power), G6 VDDE1 (power), G7 DGND (power), G8 VDDL1_1 (power), G9 VDDCLK1 (power), G10 VDDL2_1 (power), G11 VDDA18 (power), G12 VDDOUT18 (power), H1 RX4+ (in), H2 VDDR18 (power), H3 VDDT1 (power), H4 TDI (in), H5 VDDIO18 (power), H6 DGND (power), H7 VDDE1 (power), H8 VDDL1_1 (power), H9 VDDCLK1 (power), H10 VDDL2_1 (power), H11 VDDA18 (power), H12 VDDOUT18 (power), J1 RX0+ (in), J2 VDDR18 (power), J3 VDDT1 (power), J4 TDO (out), J5 TRSTn (in), J6 VDDE1 (power), J7 DGND (power), J8 VSSCLK (power), J9 VSSCLK (power), J10 VSSCLK (power), J11 VDDA1 (power), J12 AGND (power), K1 RX0- (in), K2 DGND (power), K3 TESTMODE, K4 TCLK (in), K5 TMS (in), K6 TXENABLE (in), K7 GPI0, K8 ALARM (out), K9 RESETn (in), K10 VEE18N (power), K11 AGND (power), K12 VOUT1- (out), L1 RX1- (in), L2 DGND (power), L3 DGND (power), L4 DGND (power), L5 DGND (power), L6 GPO1 (out), L7 GPO0 (out), L8 SLEEP (in), L9 SCLK (in), L10 VEE18N (power), L11 AGND (power), L12 VOUT1+ (out), M1 RX1+ (in), M2 RX2+ (in), M3 RX2- (in), M4 RX3- (in), M5 RX3+ (in), M6 DGND (power), M7 GPI1, M8 SDENn (in), M9 SDO (out), M10 SDIO (io), M11 AGND (power), M12 AGND (power)
text: 14-bit DAC 9 GSPS

## DAC904E
designator DA?
14-Bit, 165MSPS DAC; Manufacturer: Texas Instruments; Part Number: DAC904E; Package: TSSOP-28
footprint TSSOP-28(DAC904) (TSOP, 28-Leads, Pitch 0.65mm, IPC Medium Density)
pins: 1 D13 (in), 2 D12 (in), 3 D11 (in), 4 D10 (in), 5 D9 (in), 6 D8 (in), 7 D7 (in), 8 D6 (in), 9 D5 (in), 10 D4 (in), 11 D3 (in), 12 D2 (in), 13 D1 (in), 14 D0 (in), 15 PD (in), 16 ~{INT}/EXT (in), 17 REFIN, 18 FSA, 19 BW, 20 AGND (power), 21 IOUT_N (out), 22 IOUT_P (out), 23 BYP, 24 +VA (power), 25 NC (hiz), 26 DGND (power), 27 +VD (power), 28 CLK (in)
text: LSB; DAC; 14-bit; Latches; 165 MSPS DAC; Ref; +1.24V; MSB; buf

## DAC7564ICPWR
designator DA?
12-Bit, Quad Channel DAC with 2.5V, 2ppm/°C Internal Reference; Manufacturer: Texas Instruments; Part Number: DAC7564ICPWR; Package: TSSOP-16
footprint TSSOP-16 (TSOP, 20-Leads, Body 6.50x4.40mm, Pitch 0.65mm, IPC Medium Density)
pins: 1 VOUT_A (out), 2 VOUT_B (out), 3 VREF_H/VREF_OUT, 4 AVDD (power), 5 VREF_L, 6 GND (power), 7 VOUT_C (out), 8 VOUT_D (out), 9 SYNC# (in), 10 SCLK (in), 11 DIN (in), 12 IOVDD (power), 13 A0 (in), 14 A1 (in), 15 ENABLE# (in), 16 LDAC (in)
text: DAC; DAC A; 12-bit; DAC B; DAC C; DAC D

## DS25BR150TSD/NOPB
designator DD?
3.125 Gbps LVDS Buffer; Manufacturer: Texas Instruments; Part Number: DS25BR150TSD/NOPB; Package: WSON-8
footprint WSON-8(3x3) (WSON-8, 8-Leads, Body 3.00x3.00mm, Pitch 0.50mm, Thermal Pad 1.60x2.00mm, IPC Medium Density)
pins: 1 NC (hiz), 2 IN+ (in), 3 IN- (in), 4 NC (hiz), 5 NC (hiz), 6 OUT- (out), 7 OUT+ (out), 8 VCC (power), EP GND (power)
text: LVDS Buffer

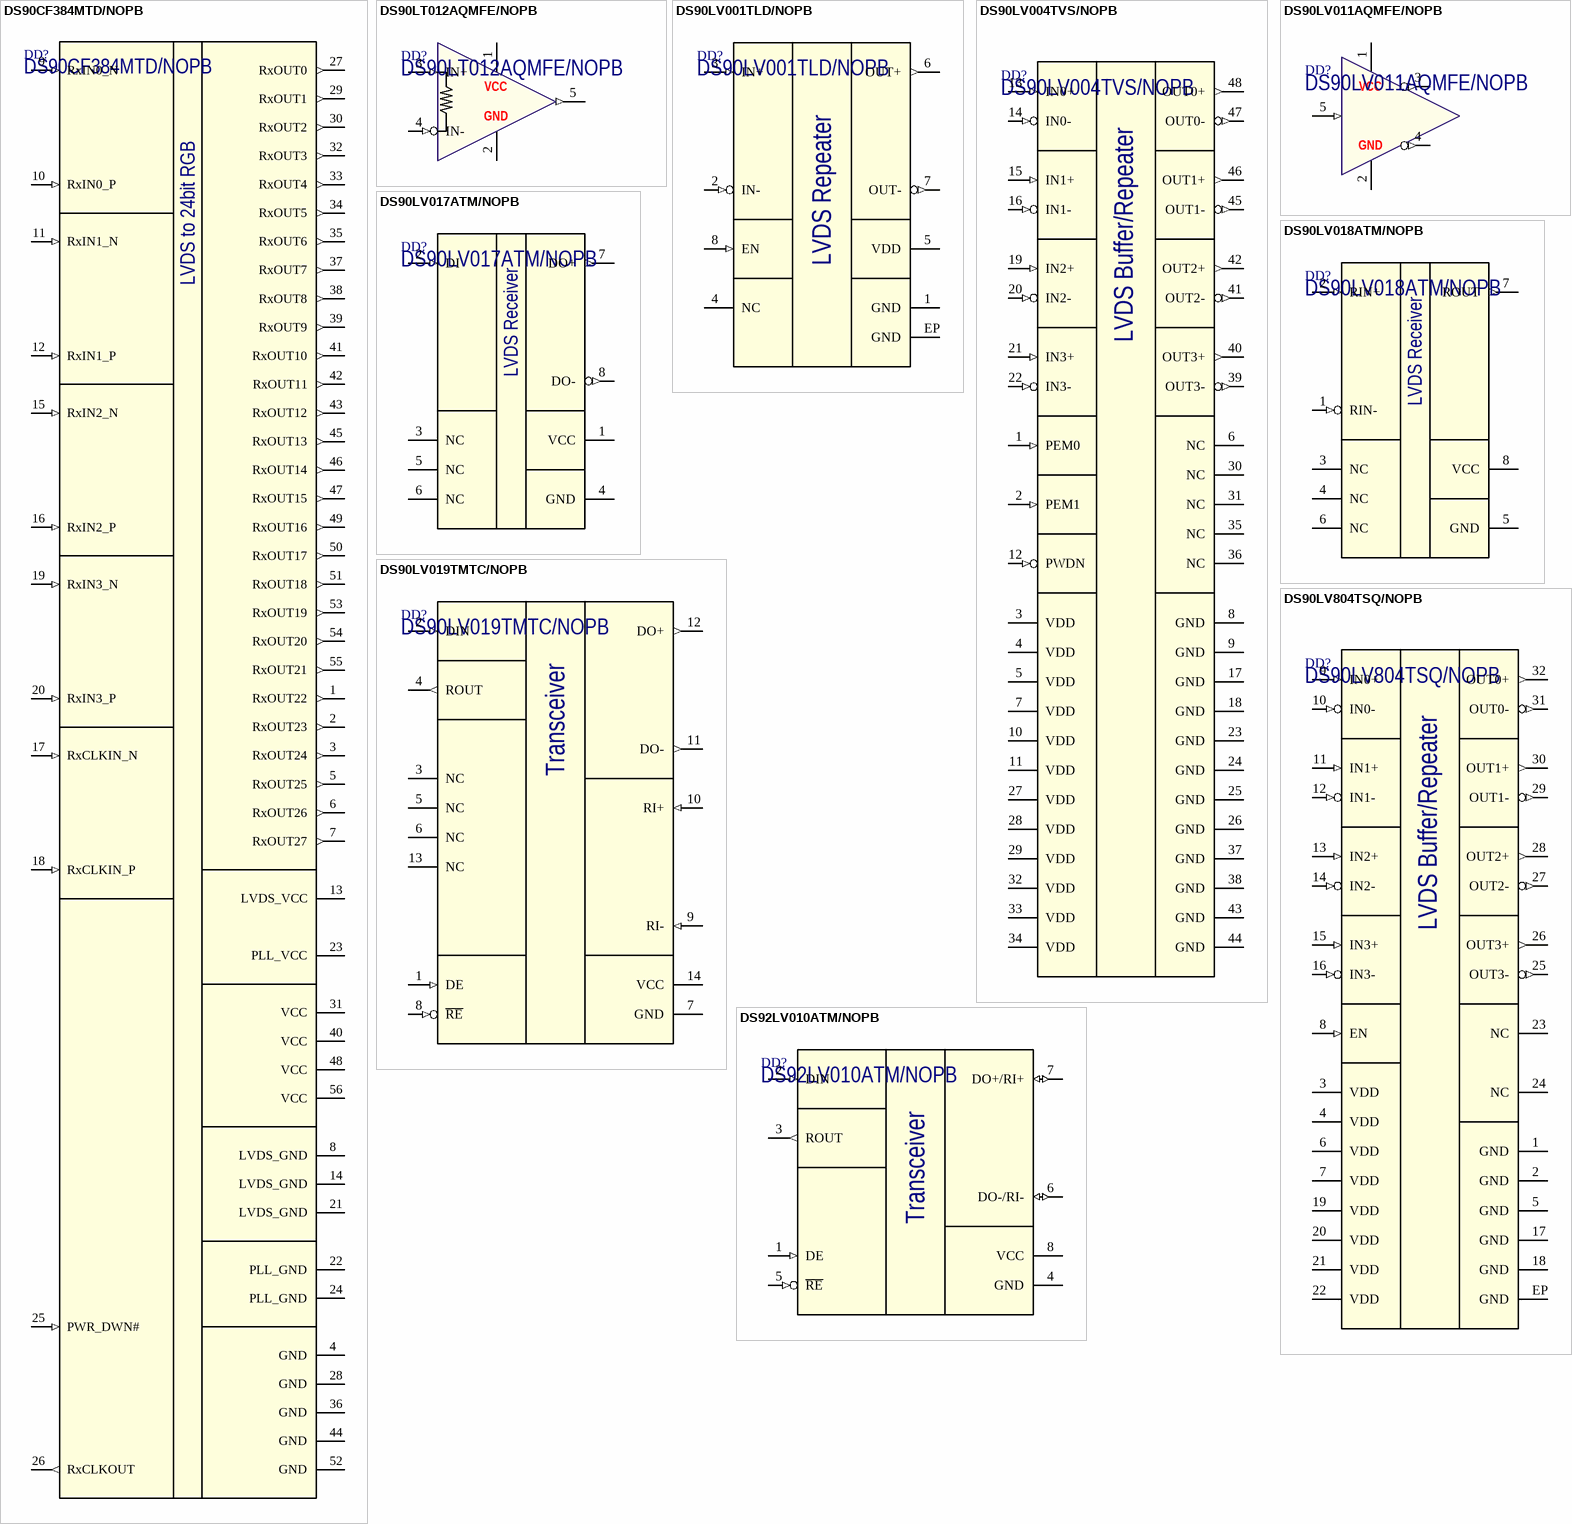
[diagram p5: symbols DS90CF384MTD/NOPB to DS92LV010ATM/NOPB]

## DS90CF384MTD/NOPB
designator DD?
LVDS Receiver 24-Bit Flat Panel Display (FPD) Link-65 MHz; Manufacturer: Texas Instruments; Part Number: DS90CF384MTD/NOPB; Package: TSSOP-56; ComponentLink1Description: SNLA014A; ComponentLink1URL: https://www.ti.com/lit/an/snla014a/snla014a.pdf
footprint TSSOP-56(FPD) (TSSOP, 56-Leads, Pitch 0.5mm, IPC Medium Density)
pins: 1 RxOUT22 (out), 2 RxOUT23 (out), 3 RxOUT24 (out), 4 GND (power), 5 RxOUT25 (out), 6 RxOUT26 (out), 7 RxOUT27 (out), 8 LVDS_GND (power), 9 RxIN0_N (in), 10 RxIN0_P (in), 11 RxIN1_N (in), 12 RxIN1_P (in), 13 LVDS_VCC (power), 14 LVDS_GND (power), 15 RxIN2_N (in), 16 RxIN2_P (in), 17 RxCLKIN_N (in), 18 RxCLKIN_P (in), 19 RxIN3_N (in), 20 RxIN3_P (in), 21 LVDS_GND (power), 22 PLL_GND (power), 23 PLL_VCC (power), 24 PLL_GND (power), 25 PWR_DWN# (in), 26 RxCLKOUT (out), 27 RxOUT0 (out), 28 GND (power), 29 RxOUT1 (out), 30 RxOUT2 (out), 31 VCC (power), 32 RxOUT3 (out), 33 RxOUT4 (out), 34 RxOUT5 (out), 35 RxOUT6 (out), 36 GND (power), 37 RxOUT7 (out), 38 RxOUT8 (out), 39 RxOUT9 (out), 40 VCC (power), 41 RxOUT10 (out), 42 RxOUT11 (out), 43 RxOUT12 (out), 44 GND (power), 45 RxOUT13 (out), 46 RxOUT14 (out), 47 RxOUT15 (out), 48 VCC (power), 49 RxOUT16 (out), 50 RxOUT17 (out), 51 RxOUT18 (out), 52 GND (power), 53 RxOUT19 (out), 54 RxOUT20 (out), 55 RxOUT21 (out), 56 VCC (power)
text: LVDS to 24bit RGB

## DS90LT012AQMFE/NOPB
designator DD?
3V LVDS Single CMOS Differential Line Receiver; Manufacturer: Texas Instruments; Part Number: DS90LT012AQMFE/NOPB; Package: SOT23-5
footprint SOT23-5 (SOT23, 6-Leads, Body 2.90x2.80mm, Pitch 0.95mm, IPC Medium Density)
pins: 1 VCC (power), 2 GND (power), 3 IN+ (in), 4 IN- (in), 5 TTLOUT (out)

## DS90LV001TLD/NOPB
designator DD?
1-Channel LVDS Buffer/Repeater; Manufacturer: Texas Instruments; Part Number: DS90LV001TLD/NOPB; Package: WSON-8
footprint WSON-8(3x3)NGK0008A (WSON-8, 8-Leads, Body 3.00x3.00mm, Pitch 0.50mm, Thermal Pad 1.60x2.00mm, IPC Medium Density)
pins: 1 GND (power), 2 IN- (in), 3 IN+ (in), 4 NC (hiz), 5 VDD (power), 6 OUT+ (out), 7 OUT- (out), 8 EN (in), EP GND (power)
text: LVDS Repeater

## DS90LV004TVS/NOPB
designator DD?
4-Channel LVDS Buffer/Repeater with Pre-Emphasis; Manufacturer: Texas Instruments; Part Number: DS90LV004TVS/NOPB; Package: TQFP-48
footprint LQFP-48 (TSQFP, 48-Leads, Body 7,00x7,00mm, Pitch 0,50mm, IPC Medium Density)
pins: 1 PEM0 (in), 2 PEM1 (in), 3 VDD (power), 4 VDD (power), 5 VDD (power), 6 NC (hiz), 7 VDD (power), 8 GND (power), 9 GND (power), 10 VDD (power), 11 VDD (power), 12 PWDN (in), 13 IN0+ (in), 14 IN0- (in), 15 IN1+ (in), 16 IN1- (in), 17 GND (power), 18 GND (power), 19 IN2+ (in), 20 IN2- (in), 21 IN3+ (in), 22 IN3- (in), 23 GND (power), 24 GND (power), 25 GND (power), 26 GND (power), 27 VDD (power), 28 VDD (power), 29 VDD (power), 30 NC (hiz), 31 NC (hiz), 32 VDD (power), 33 VDD (power), 34 VDD (power), 35 NC (hiz), 36 NC (hiz), 37 GND (power), 38 GND (power), 39 OUT3- (out), 40 OUT3+ (out), 41 OUT2- (out), 42 OUT2+ (out), 43 GND (power), 44 GND (power), 45 OUT1- (out), 46 OUT1+ (out), 47 OUT0- (out), 48 OUT0+ (out)
text: LVDS Buffer/Repeater

## DS90LV011AQMFE/NOPB
designator DD?
3V LVDS Single High Speed Differential Driver; Manufacturer: Texas Instruments; Part Number: DS90LV011AQMFE/NOPB; Package: SOT23-5
footprint SOT23-5 (SOT23, 6-Leads, Body 2.90x2.80mm, Pitch 0.95mm, IPC Medium Density)
pins: 1 VCC (power), 2 GND (power), 3 OUT- (out), 4 OUT+ (out), 5 TTLIN (in)

## DS90LV017ATM/NOPB
designator DD?
LVDS Single High Speed Differential Driver; Manufacturer: Texas Instruments; Part Number: DS90LV017ATM/NOPB; Package: SOIC-8
footprint SOIC-8 (SOIC-8 package)
pins: 1 VCC (power), 2 DI (in), 3 NC (hiz), 4 GND (power), 5 NC (hiz), 6 NC (hiz), 7 DO+ (out), 8 DO- (out)
text: LVDS Receiver

## DS90LV018ATM/NOPB
designator DD?
3V LVDS Single CMOS Differential Line Receiver; Manufacturer: Texas Instruments; Part Number: DS90LV018ATM/NOPB; Package: SOIC-8
footprint SOIC-8 (SOIC-8 package)
pins: 1 RIN- (in), 2 RIN+ (in), 3 NC (hiz), 4 NC (hiz), 5 GND (power), 6 NC (hiz), 7 ROUT (out), 8 VCC (power)
text: LVDS Receiver

## DS90LV019TMTC/NOPB
designator DD?
3.3V or 5V LVDS Driver/Receiver; Manufacturer: Texas Instruments; Part Number: DS90LV019TMTC/NOPB; Package: TSSOP-14
footprint TSSOP-14 (TSOP, 20-Leads, Body 6.50x4.40mm, Pitch 0.65mm, IPC Medium Density)
pins: 1 DE (in), 2 DIN (in), 3 NC (hiz), 4 ROUT (out), 5 NC (hiz), 6 NC (hiz), 7 GND (power), 8 ~{RE} (in), 9 RI- (in), 10 RI+ (in), 11 DO- (out), 12 DO+ (out), 13 NC (hiz), 14 VCC (power)
text: Transceiver

## DS90LV804TSQ/NOPB
designator DD?
4-Channel 800 Mbps LVDS Buffer/Repeater; Manufacturer: Texas Instruments; Part Number: DS90LV804TSQ/NOPB; Package: QFN-32
footprint QFN32 (QFN, 32-Leads, Body 5.00x5.00mm, Pitch 0.50mm, Thermal Pad 3.50x3.50mm, IPC Medium Density)
pins: 1 GND (power), 2 GND (power), 3 VDD (power), 4 VDD (power), 5 GND (power), 6 VDD (power), 7 VDD (power), 8 EN (in), 9 IN0+ (in), 10 IN0- (in), 11 IN1+ (in), 12 IN1- (in), 13 IN2+ (in), 14 IN2- (in), 15 IN3+ (in), 16 IN3- (in), 17 GND (power), 18 GND (power), 19 VDD (power), 20 VDD (power), 21 VDD (power), 22 VDD (power), 23 NC (hiz), 24 NC (hiz), 25 OUT3- (out), 26 OUT3+ (out), 27 OUT2- (out), 28 OUT2+ (out), 29 OUT1- (out), 30 OUT1+ (out), 31 OUT0- (out), 32 OUT0+ (out), EP GND (power)
text: LVDS Buffer/Repeater

## DS92LV010ATM/NOPB
designator DD?
Bus LVDS 3.3/5.0V Single Transceiver; Manufacturer: Texas Instruments; Part Number: DS92LV010ATM/NOPB; Package: SOIC-8
footprint SOIC-8 (SOIC-8 package)
pins: 1 DE (in), 2 DIN (in), 3 ROUT (out), 4 GND (power), 5 ~{RE} (in), 6 DO-/RI- (io), 7 DO+/RI+ (io), 8 VCC (power)
text: Transceiver

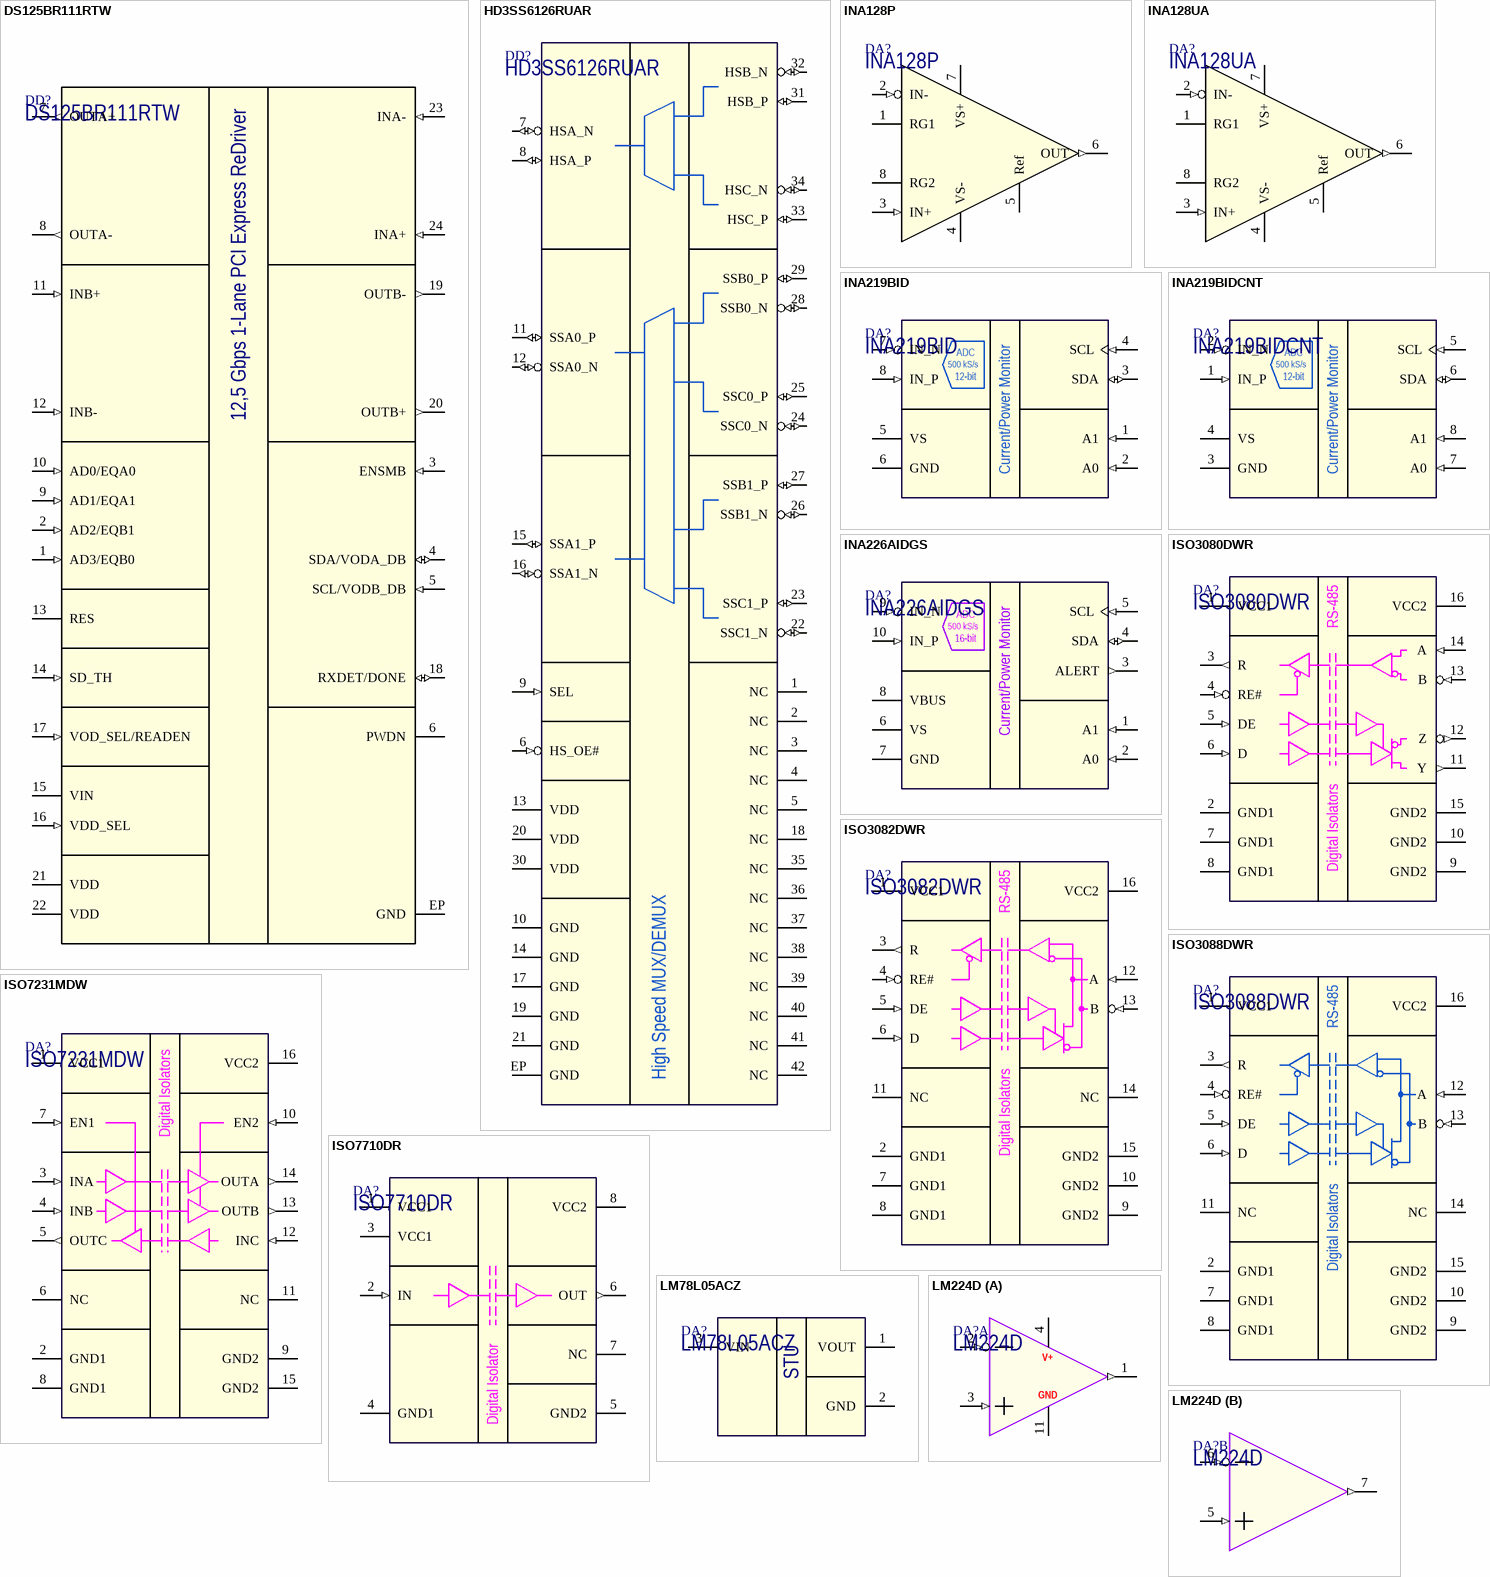
[diagram p6: symbols DS125BR111RTW to LM224D]

## DS125BR111RTW
designator DD?
12,5 Gbps 1-Lane PCI Express ReDriver; Manufacturer: Texas Instruments; Part Number: DS125BR111RTW; Package: QFN-24
footprint QFN24 (QFN, 24-Leads, Body 4.00x4.00mm, Pitch 0.50mm, Thermal Pad 2.50x2.50mm, IPC Medium Density)
pins: 1 AD3/EQB0 (in), 2 AD2/EQB1 (in), 3 ENSMB (in), 4 SDA/VODA_DB (io), 5 SCL/VODB_DB (in), 6 PWDN (hiz), 7 OUTA+ (out), 8 OUTA- (out), 9 AD1/EQA1 (in), 10 AD0/EQA0 (in), 11 INB+ (in), 12 INB- (in), 13 RES (hiz), 14 SD_TH (in), 15 VIN (power), 16 VDD_SEL (in), 17 VOD_SEL/READEN (in), 18 RXDET/DONE (io), 19 OUTB- (out), 20 OUTB+ (out), 21 VDD (power), 22 VDD (power), 23 INA- (in), 24 INA+ (in), EP GND (power)

## HD3SS6126RUAR
designator DD?
USB 3.0 and USB 2.0 Differential Switch 2:1/1:2 MUX/DEMUX; Manufacturer: Texas Instruments; Part Number: HD3SS6126RUAR; Package: WQFN-42
footprint WQFN-42_RUA0042A (WQFN-42 Package, TI case style RUA0042A)
pins: 1 NC (hiz), 2 NC (hiz), 3 NC (hiz), 4 NC (hiz), 5 NC (hiz), 6 HS_OE# (in), 7 HSA_N (io), 8 HSA_P (io), 9 SEL (in), 10 GND (power), 11 SSA0_P (io), 12 SSA0_N (io), 13 VDD (power), 14 GND (power), 15 SSA1_P (io), 16 SSA1_N (io), 17 GND (power), 18 NC (hiz), 19 GND (power), 20 VDD (power), 21 GND (power), 22 SSC1_N (io), 23 SSC1_P (io), 24 SSC0_N (io), 25 SSC0_P (io), 26 SSB1_N (io), 27 SSB1_P (io), 28 SSB0_N (io), 29 SSB0_P (io), 30 VDD (power), 31 HSB_P (io), 32 HSB_N (io), 33 HSC_P (io), 34 HSC_N (io), 35 NC (hiz), 36 NC (hiz), 37 NC (hiz), 38 NC (hiz), 39 NC (hiz), 40 NC (hiz), 41 NC (hiz), 42 NC (hiz), EP GND (power)
text: High Speed MUX/DEMUX

## INA128P
designator DA?
Precision, Low-Power Instrumentation Amplifiers; Manufacturer: Texas Instruments; Part Number: INA128P; Package: DIP-8
footprint DIP-8P-M01 (Plastic DIP, 8 pin, lead pitch 2.54mm (0.1"), row spacing 7.62mm (0.3").)
footprint DIP-8P-M01_with_SO8 (Plastic DIP, 8 pin, lead pitch 2.54mm (0.1"), row spacing 7.62mm (0.3").)
pins: 1 RG1, 2 IN- (in), 3 IN+ (in), 4 VS- (power), 5 Ref, 6 OUT (out), 7 VS+ (power), 8 RG2

## INA128UA
designator DA?
Precision, Low-Power Instrumentation Amplifiers; Manufacturer: Texas Instruments; Part Number: INA128UA; Package: SOIC-8
footprint SOIC-8 (SOIC-8 package)
pins: 1 RG1, 2 IN- (in), 3 IN+ (in), 4 VS- (power), 5 Ref, 6 OUT (out), 7 VS+ (power), 8 RG2

## INA219BID
designator DA?
Zerø-Drift, Bidirectional Current/Power Monitor With I2C Interface; Manufacturer: Texas Instruments; Part Number: INA219BID; Package: SOIC-8
footprint SOIC-8 (SOIC-8 package)
pins: 1 A1 (in), 2 A0 (in), 3 SDA (io), 4 SCL (in), 5 VS (power), 6 GND (power), 7 IN_N (in), 8 IN_P (in)
text: ADC; 500 kS/s; 12-bit; Current/Power Monitor

## INA219BIDCNT
designator DA?
Zerø-Drift, Bidirectional Current/Power Monitor With I2C Interface; Manufacturer: Texas Instruments; Part Number: INA219BIDCNT; Package: SOT23-8
footprint SOT23-8 (SOT23-8, 8-Leads, Body 2,90x1,63mm, Pitch 0,65mm, IPC Medium Density)
pins: 1 IN_P (in), 2 IN_N (in), 3 GND (power), 4 VS (power), 5 SCL (in), 6 SDA (io), 7 A0 (in), 8 A1 (in)
text: ADC; 500 kS/s; 12-bit; Current/Power Monitor

## INA226AIDGS
designator DA?
High-Side or Low-Side Measurement, / Bi-Directional Current and Power Monitor with I / 2C Compatible Interface; Manufacturer: Texas Instruments; Part Number: INA226AIDGS; Package: VSSOP-10
footprint VSSOP-10 (TSOP, 8-Leads, Body 3.00x3.00mm, Pitch 0.65mm, IPC Medium Density)
pins: 1 A1 (in), 2 A0 (in), 3 ALERT (out), 4 SDA (io), 5 SCL (in), 6 VS (power), 7 GND (power), 8 VBUS (power), 9 IN_N (in), 10 IN_P (in)
text: ADC; 500 kS/s; 16-bit; Current/Power Monitor

## ISO3080DWR
designator DA?
Isolated 5-V Full-Duplex RS-485 Transceivers; Manufacturer: Texas Instruments; Part Number: ISO3080DWR; Package: SO-16W
footprint SO-16W (SOIC, 16-Leads, Body 10.29x7.49mm, Pitch 1.27mm, IPC Medium Density)
pins: 1 VCC1 (power), 2 GND1 (power), 3 R (out), 4 RE# (in), 5 DE (in), 6 D (in), 7 GND1 (power), 8 GND1 (power), 9 GND2 (power), 10 GND2 (power), 11 Y (out), 12 Z (out), 13 B (in), 14 A (in), 15 GND2 (power), 16 VCC2 (power)
text: RS-485; Digital Isolators

## ISO3082DWR
designator DA?
Isolated 5-V Half-Duplex RS-485 Transceivers; Manufacturer: Texas Instruments; Part Number: ISO3082DWR; Package: SO-16W
footprint SO-16W (SOIC, 16-Leads, Body 10.29x7.49mm, Pitch 1.27mm, IPC Medium Density)
pins: 1 VCC1 (power), 2 GND1 (power), 3 R (out), 4 RE# (in), 5 DE (in), 6 D (in), 7 GND1 (power), 8 GND1 (power), 9 GND2 (power), 10 GND2 (power), 11 NC (hiz), 12 A (in), 13 B (in), 14 NC (hiz), 15 GND2 (power), 16 VCC2 (power)
text: RS-485; Digital Isolators

## ISO3088DWR
designator DA?
Isolated 5-V Half-Duplex RS-485 Transceivers; Manufacturer: Texas Instruments; Part Number: ISO3088DWR; Package: SO-16W
footprint SO-16W (SOIC, 16-Leads, Body 10.29x7.49mm, Pitch 1.27mm, IPC Medium Density)
pins: 1 VCC1 (power), 2 GND1 (power), 3 R (out), 4 RE# (in), 5 DE (in), 6 D (in), 7 GND1 (power), 8 GND1 (power), 9 GND2 (power), 10 GND2 (power), 11 NC (hiz), 12 A (in), 13 B (in), 14 NC (hiz), 15 GND2 (power), 16 VCC2 (power)
text: RS-485; Digital Isolators

## ISO7231MDW
designator DA?
High-Speed, Triple-Channel Digital Isolators; Manufacturer: Texas Instruments; Part Number: ISO7231MDW; Package: SO-16W
footprint SO-16W (SOIC, 16-Leads, Body 10.29x7.49mm, Pitch 1.27mm, IPC Medium Density)
pins: 1 VCC1 (power), 2 GND1 (power), 3 INA (in), 4 INB (in), 5 OUTC (out), 6 NC (hiz), 7 EN1 (in), 8 GND1 (power), 9 GND2 (power), 10 EN2 (in), 11 NC (hiz), 12 INC (in), 13 OUTB (out), 14 OUTA (out), 15 GND2 (power), 16 VCC2 (power)
text: Digital Isolators

## ISO7710DR
designator DA?
High Speed, Robust EMC Reinforced Single-Channel Digital Isolator; Manufacturer: Texas Instruments; Part Number: ISO7710DR; Package: SO-8
footprint SOIC-8 (SOIC-8 package)
pins: 1 VCC1 (power), 2 IN (in), 3 VCC1 (power), 4 GND1 (power), 5 GND2 (power), 6 OUT (out), 7 NC (hiz), 8 VCC2 (power)
text: Digital Isolator

## LM78L05ACZ
designator DA?
100-mA Fixed Output Linear Regulator; Manufacturer: Texas Instruments; Part Number: LM78L05ACZ; Package: TO-92
footprint TO-92 (VERTICAL,LINE)
footprint TO-92 (VERTICAL,TRIANGLE)
pins: 1 VOUT (power), 2 GND (power), 3 VIN (power)
text: STU

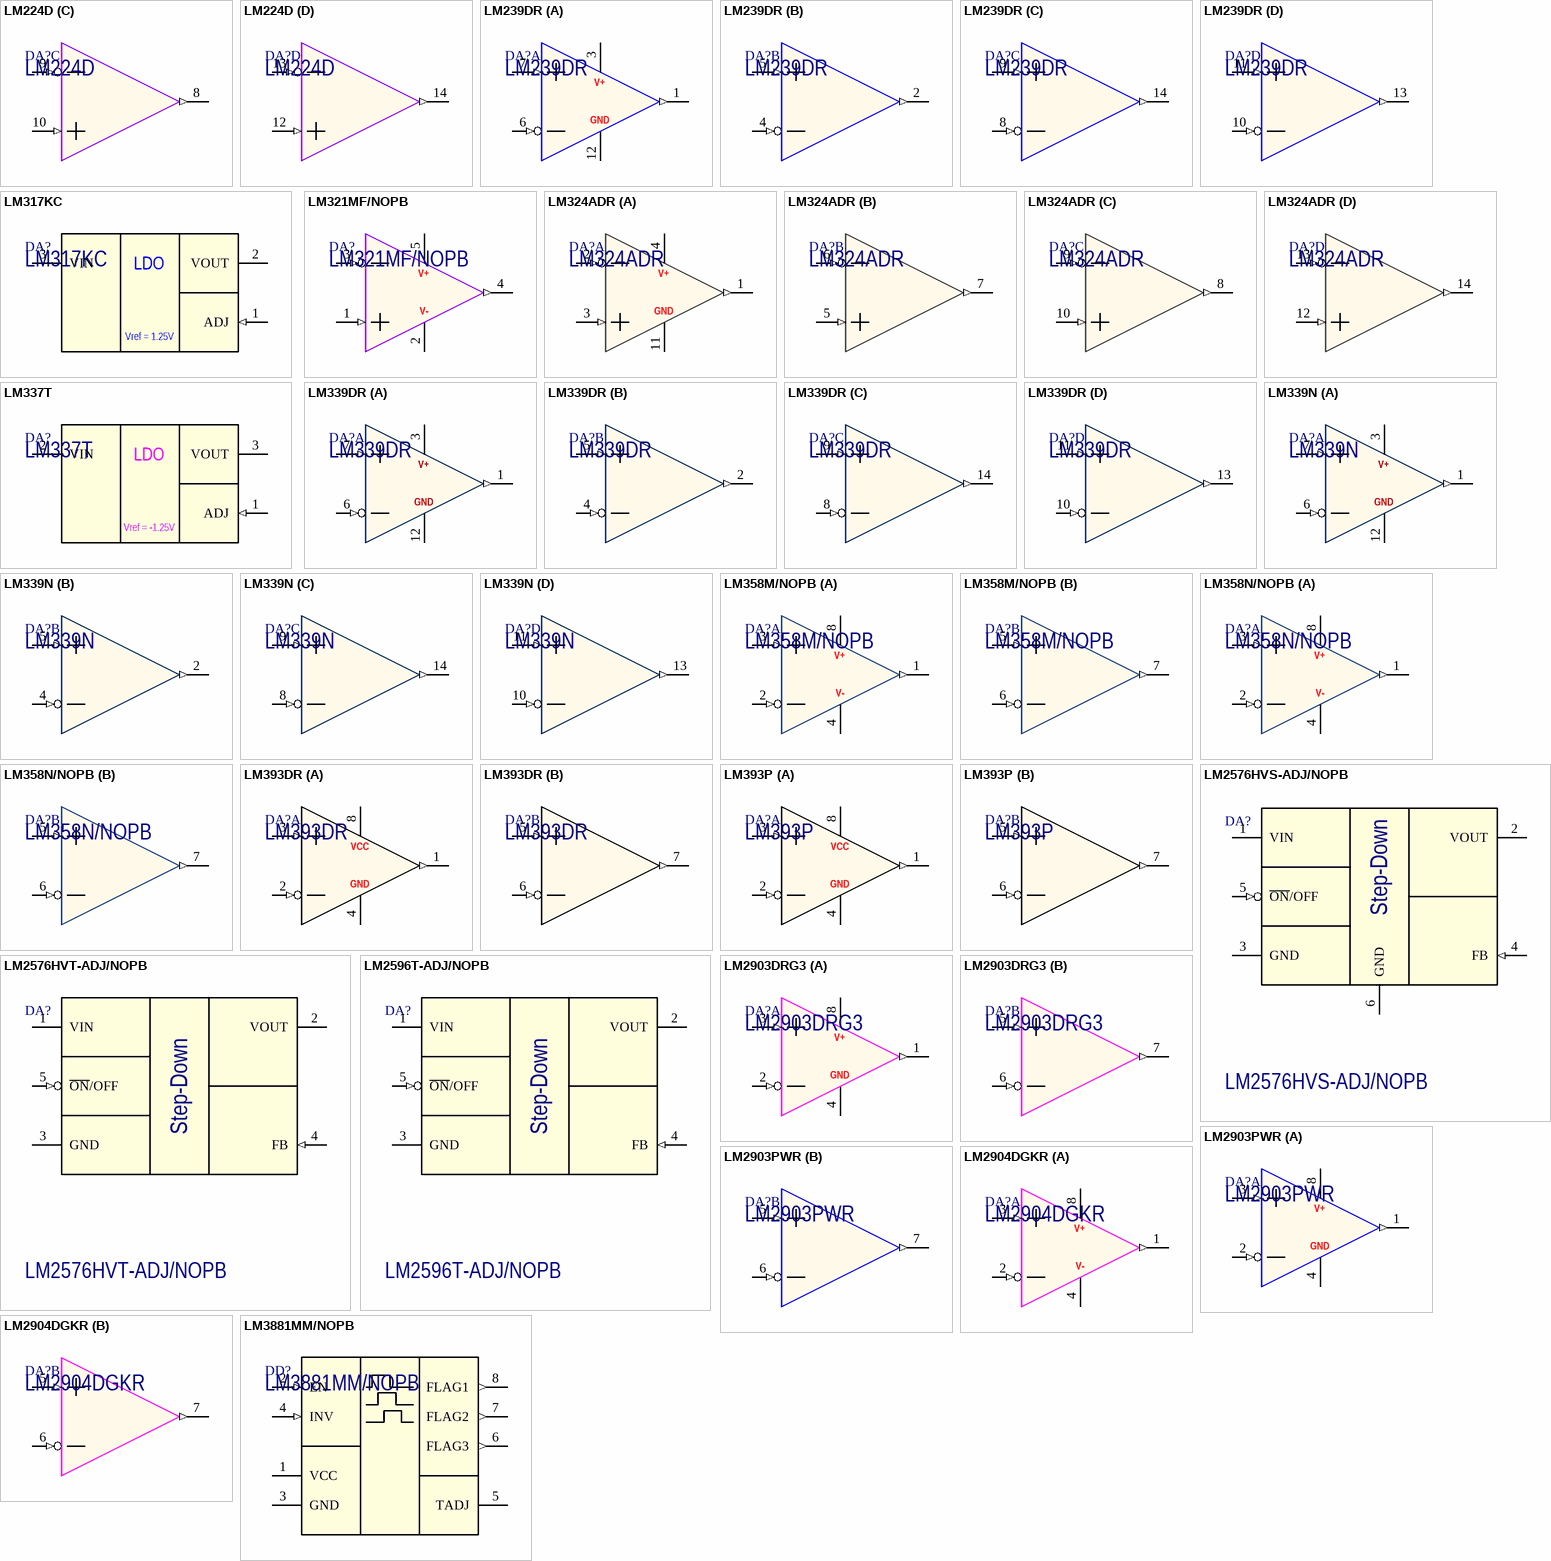
[diagram p7: symbols LM224D to LM3881MM/NOPB]

## LM224D
designator DA?
Low Power Quad Operational Amplifiers; Manufacturer: Texas Instruments; Part Number: LM224D; Package: SO-14
footprint SOIC-14 (package SOIC-14, 150 mil)
part A pins: 1 1OUT (out), 2 1IN- (in), 3 1IN+ (in), 4 VCC (power), 11 GND (power)
part B pins: 5 2IN+ (in), 6 2IN- (in), 7 2OUT (out)
part C pins: 8 3OUT (out), 9 3IN- (in), 10 3IN+ (in)
part D pins: 12 4IN+ (in), 13 4IN- (in), 14 4OUT (out)
part A text: V+

## LM239DR
designator DA?
Quad Comparators; Manufacturer: Texas Instruments; Part Number: LM239DR; Package: SO-14
footprint SOIC-14 (package SOIC-14, 150 mil)
part A pins: 1 1OUT (out), 3 VCC (power), 6 1IN- (in), 7 1IN+ (in), 12 GND (power)
part B pins: 2 2OUT (out), 4 2IN- (in), 5 2IN+ (in)
part C pins: 8 3IN- (in), 9 3IN+ (in), 14 3OUT (out)
part D pins: 10 4IN- (in), 11 4IN+ (in), 13 4OUT (out)
part A text: V+

## LM317KC
designator DA?
1.5 A 3-Terminal Adjustable Regulator; Manufacturer: Texas Instruments; Package: TO-220; Part Number: LM317KC
footprint TO-220A-3
footprint TO-220A-3 (HORIZONTAL)
pins: 1 ADJ (in), 2 VOUT (power), 3 VIN (power)
text: LDO; Vref = 1.25V

## LM321MF/NOPB
designator DA?
Single, 30-V, 1-MHz operational amplifier; Manufacturer: Texas Instruments; Part Number: LM321MF/NOPB; Package: SOT23-5
footprint SOT23-5 (SOT23, 6-Leads, Body 2.90x2.80mm, Pitch 0.95mm, IPC Medium Density)
pins: 1 1IN+ (in), 2 V- (power), 3 1IN- (in), 4 1OUT (out), 5 V+ (power)

## LM324ADR
designator DA?
Low Power Quad Operational Amplifiers; Manufacturer: Texas Instruments; Part Number: LM324ADR; Package: SOIC-14
footprint SOIC-14 (package SOIC-14, 150 mil)
part A pins: 1 1OUT (out), 2 1IN- (in), 3 1IN+ (in), 4 VCC (power), 11 GND (power)
part B pins: 5 2IN+ (in), 6 2IN- (in), 7 2OUT (out)
part C pins: 8 3OUT (out), 9 3IN- (in), 10 3IN+ (in)
part D pins: 12 4IN+ (in), 13 4IN- (in), 14 4OUT (out)
part A text: V+

## LM337T
designator DA?
-1.5A  3-Terminal Adjustable Negative Regulators; Manufacturer: Texas Instruments; Package: TO-220; Part Number: LM337T
footprint TO-220A-3
footprint TO-220A-3 (HORIZONTAL)
pins: 1 ADJ (in), 2 VIN (power), 3 VOUT (power)
text: LDO; Vref = -1.25V

## LM339DR
designator DA?
Quad Comparators; Manufacturer: Texas Instruments; Part Number: LM339DR; Package: SOIC-14
footprint SOIC-14 (package SOIC-14, 150 mil)
part A pins: 1 1OUT (out), 3 VCC (power), 6 1IN- (in), 7 1IN+ (in), 12 GND (power)
part B pins: 2 2OUT (out), 4 2IN- (in), 5 2IN+ (in)
part C pins: 8 3IN- (in), 9 3IN+ (in), 14 3OUT (out)
part D pins: 10 4IN- (in), 11 4IN+ (in), 13 4OUT (out)
part A text: V+

## LM339N
designator DA?
Quad Comparators; Manufacturer: Texas Instruments; Part Number: LM339N; Package: DIP-14
footprint DIP-14P-M02 (Plastic DIP, 14 pin, lead pitch 2.54mm (0.1"), row spacing 7.62mm (0.3"))
part A pins: 1 1OUT (out), 3 VCC (power), 6 1IN- (in), 7 1IN+ (in), 12 GND (power)
part B pins: 2 2OUT (out), 4 2IN- (in), 5 2IN+ (in)
part C pins: 8 3IN- (in), 9 3IN+ (in), 14 3OUT (out)
part D pins: 10 4IN- (in), 11 4IN+ (in), 13 4OUT (out)
part A text: V+

## LM358M/NOPB
designator DA?
Low-Power, Dual-Operational Amplifiers; Manufacturer: Texas Instruments; Part Number: LM358M/NOPB; Package: SOIC-8
footprint SOIC-8 (SOIC-8 package)
footprint SOIC-8_with_DIP-8 (Plastic DIP, 8 pin, lead pitch 2.54mm (0.1"), row spacing 7.62mm (0.3").)
part A pins: 1 1OUT (out), 2 1IN- (in), 3 1IN+ (in), 4 V- (power), 8 V+ (power)
part B pins: 5 2IN+ (in), 6 2IN- (in), 7 2OUT (out)

## LM358N/NOPB
designator DA?
Low-Power, Dual-Operational Amplifiers; Manufacturer: Texas Instruments; Part Number: LM358N/NOPB; Package: DIP-8
footprint DIP-8P-M01 (Plastic DIP, 8 pin, lead pitch 2.54mm (0.1"), row spacing 7.62mm (0.3").)
footprint DIP-8P-M01_with_SO8 (Plastic DIP, 8 pin, lead pitch 2.54mm (0.1"), row spacing 7.62mm (0.3").)
part A pins: 1 1OUT (out), 2 1IN- (in), 3 1IN+ (in), 4 V- (power), 8 V+ (power)
part B pins: 5 2IN+ (in), 6 2IN- (in), 7 2OUT (out)

## LM393DR
designator DA?
Dual Comparator; Manufacturer: Texas Instruments; Part Number: LM393DR; Package: SO-8
footprint SOIC-8_with_DIP-8 (Plastic DIP, 8 pin, lead pitch 2.54mm (0.1"), row spacing 7.62mm (0.3").)
footprint SOIC-8 (SOIC-8 package)
part A pins: 1 1OUT (out), 2 1IN- (in), 3 1IN+ (in), 4 GND (power), 8 VCC (power)
part B pins: 5 2IN+ (in), 6 2IN- (in), 7 2OUT (out)

## LM393P
designator DA?
Dual Comparator; Manufacturer: Texas Instruments; Part Number: LM393P; Package: DIP-8
footprint DIP-8P-M01_with_SO8 (Plastic DIP, 8 pin, lead pitch 2.54mm (0.1"), row spacing 7.62mm (0.3").)
footprint DIP-8P-M01 (Plastic DIP, 8 pin, lead pitch 2.54mm (0.1"), row spacing 7.62mm (0.3").)
part A pins: 1 1OUT (out), 2 1IN- (in), 3 1IN+ (in), 4 GND (power), 8 VCC (power)
part B pins: 5 2IN+ (in), 6 2IN- (in), 7 2OUT (out)

## LM2576HVS-ADJ/NOPB
designator DA?
Surface mount 3-A Step-Down Voltage Regulator; Manufacturer: Texas Instruments; Part Number: LM2576HVS-ADJ/NOPB; Package: TO-220-5
footprint TO-263-6 (D2-PAK, 6-Pads, Body 7.80x8.61mm (max), IPC Medium Density)
pins: 1 VIN (power), 2 VOUT (power), 3 GND (power), 4 FB (in), 5 ~{ON}/OFF (in), 6 GND (power)
text: Step-Down

## LM2576HVT-ADJ/NOPB
designator DA?
3-A Step-Down Voltage Regulator; Manufacturer: Texas Instruments; Part Number: LM2576HVT-ADJ/NOPB; Package: TO-220-5
footprint TO-220-5
footprint TO-220-5 (hole mounting)
footprint TO-220-5(VERTICAL)
pins: 1 VIN (power), 2 VOUT (power), 3 GND (power), 4 FB (in), 5 ~{ON}/OFF (in)
text: Step-Down

## LM2596T-ADJ/NOPB
designator DA?
3-A Step-Down Voltage Regulator; Manufacturer: Texas Instruments; Part Number: LM2596T-ADJ/NOPB; Package: TO-220-5
footprint TO-220-5
footprint TO-220-5 (hole mounting)
footprint TO-220-5(VERTICAL)
pins: 1 VIN (power), 2 VOUT (power), 3 GND (power), 4 FB (in), 5 ~{ON}/OFF (in)
text: Step-Down

## LM2903DRG3
designator DA?
IC COMPARATOR DIFF DUAL 8SOIC; Manufacturer: Texas Instruments; Part Number: LM2903DRG3; Package: SOIC-8
footprint SOIC-8 (SOIC-8 package)
part A pins: 1 1OUT (out), 2 1IN- (in), 3 1IN+ (in), 4 GND (power), 8 VCC (power)
part B pins: 5 2IN+ (in), 6 2IN- (in), 7 2OUT (out)
part A text: V+

## LM2903PWR
designator DA?
Dual Comparators; Manufacturer: Texas Instruments; Part Number: LM2903PWR; Package: TSSOP-8
footprint TSSOP-8 (TSOP, 8-Leads, Body 3,00x3,00mm, Pitch 0,65mm, IPC Medium Density)
part A pins: 1 1OUT (out), 2 1IN- (in), 3 1IN+ (in), 4 GND (power), 8 VCC (power)
part B pins: 5 2IN+ (in), 6 2IN- (in), 7 2OUT (out)
part A text: V+

## LM2904DGKR
designator DA?
Industry-Standard Dual Operational Amplifiers; Manufacturer: Texas Instruments; Part Number: LM2904DGKR; Package: MSOP-8
footprint MSOP-8 (TSOP, 8-Leads, Body 3.00x3.00mm, Pitch 0.65mm, IPC Medium Density)
part A pins: 1 1OUT (out), 2 1IN- (in), 3 1IN+ (in), 4 GND (power), 8 VCC (power)
part B pins: 5 2IN+ (in), 6 2IN- (in), 7 2OUT (out)
part A text: V+; V-

## LM3881MM/NOPB
designator DD?
Power Sequencer With Adjustable Timing; Manufacturer: Texas Instruments; Part Number: LM3881MM/NOPB; Package: MSOP-8
footprint MSOP-8 (TSOP, 8-Leads, Body 3.00x3.00mm, Pitch 0.65mm, IPC Medium Density)
pins: 1 VCC (power), 2 EN (in), 3 GND (power), 4 INV (in), 5 TADJ, 6 FLAG3 (out), 7 FLAG2 (out), 8 FLAG1 (out)

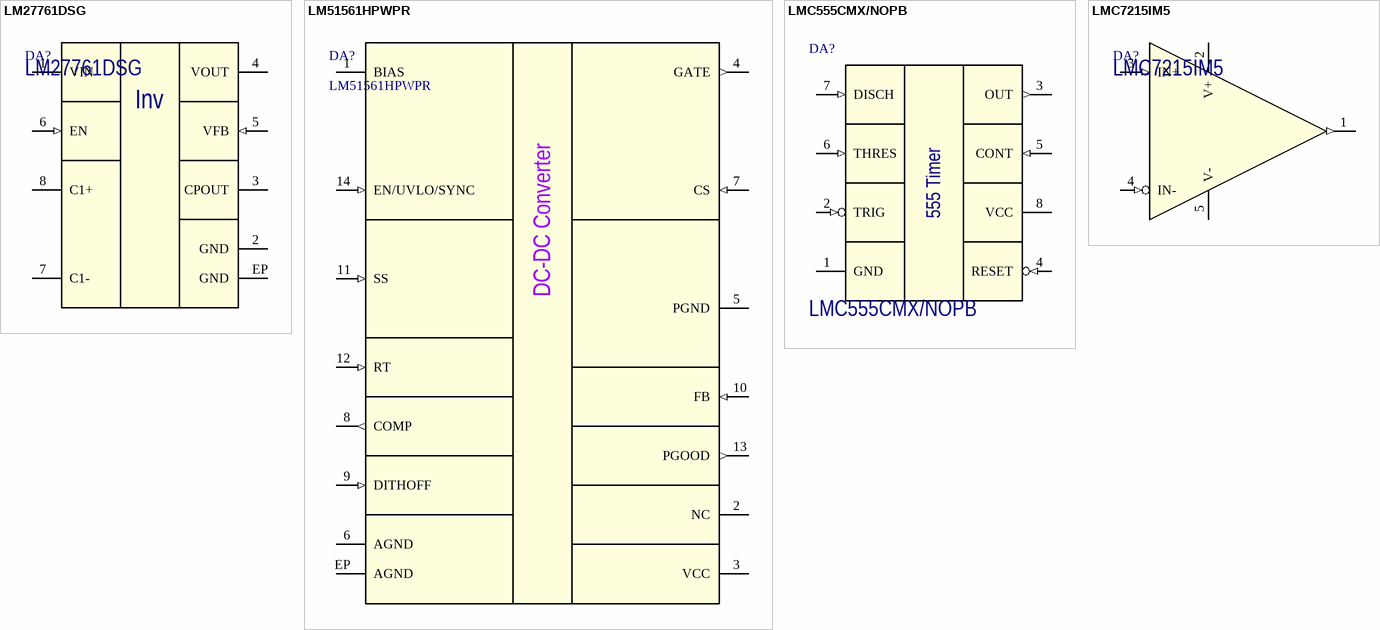
[diagram p8: symbols LM27761DSG to LMC7215IM5]

## LM27761DSG
designator DA?
Low-Noise, Regulated, Switched-Capacitor Voltage Inverter; Manufacturer: Texas Instruments; Part Number: LM27761DSG; Package: WSON-8
footprint WSON-8(2x2) (WSON-8, 8-Leads, Body 2,00x2,00mm, Pitch 0,50mm, Thermal Pad 0,90x1,65mm, IPC Medium Density)
pins: 1 VIN (power), 2 GND (power), 3 CPOUT (power), 4 VOUT (power), 5 VFB (in), 6 EN (in), 7 C1-, 8 C1+, EP GND (power)
text: Inv

## LM51561HPWPR
designator DA?
2.2-MHz Wide VIN 65-V Non-synchronous Boost/SEPIC/Flyback Controller; Manufacturer: Texas Instruments; Part Number: LM51561HPWPR; Package: HTSSOP-14
footprint HTSSOP-14_WITHOUT_HEATSINK
footprint HTSSOP-14
pins: 1 BIAS (power), 2 NC (hiz), 3 VCC (power), 4 GATE (out), 5 PGND (power), 6 AGND (power), 7 CS (in), 8 COMP (out), 9 DITHOFF (in), 10 FB (in), 11 SS (in), 12 RT (in), 13 PGOOD (out), 14 EN/UVLO/SYNC (in), EP AGND (power)
text: DC-DC Converter

## LMC555CMX/NOPB
designator DA?
LMC555 CMOS Timer; Manufacturer: Texas Instruments; Part Number: LMC555CMX/NOPB; Package: SOIC-8
footprint SOIC-8 (SOIC-8 package)
pins: 1 GND (power), 2 TRIG (in), 3 OUT (out), 4 RESET (in), 5 CONT (in), 6 THRES (in), 7 DISCH (in), 8 VCC (power)
text: 555 Timer

## LMC7215IM5
designator DA?
Rail-to-Rail CMOS Comparators with PushPull/Open-Drain Outputs; Manufacturer: Texas Instruments; Part Number: LMC7215IM5; Package: SOT23-5
footprint SOT23-5 (SOT23, 6-Leads, Body 2.90x2.80mm, Pitch 0.95mm, IPC Medium Density)
pins: 1 OUT (out), 2 V+ (power), 3 IN+ (in), 4 IN- (in), 5 V- (power)

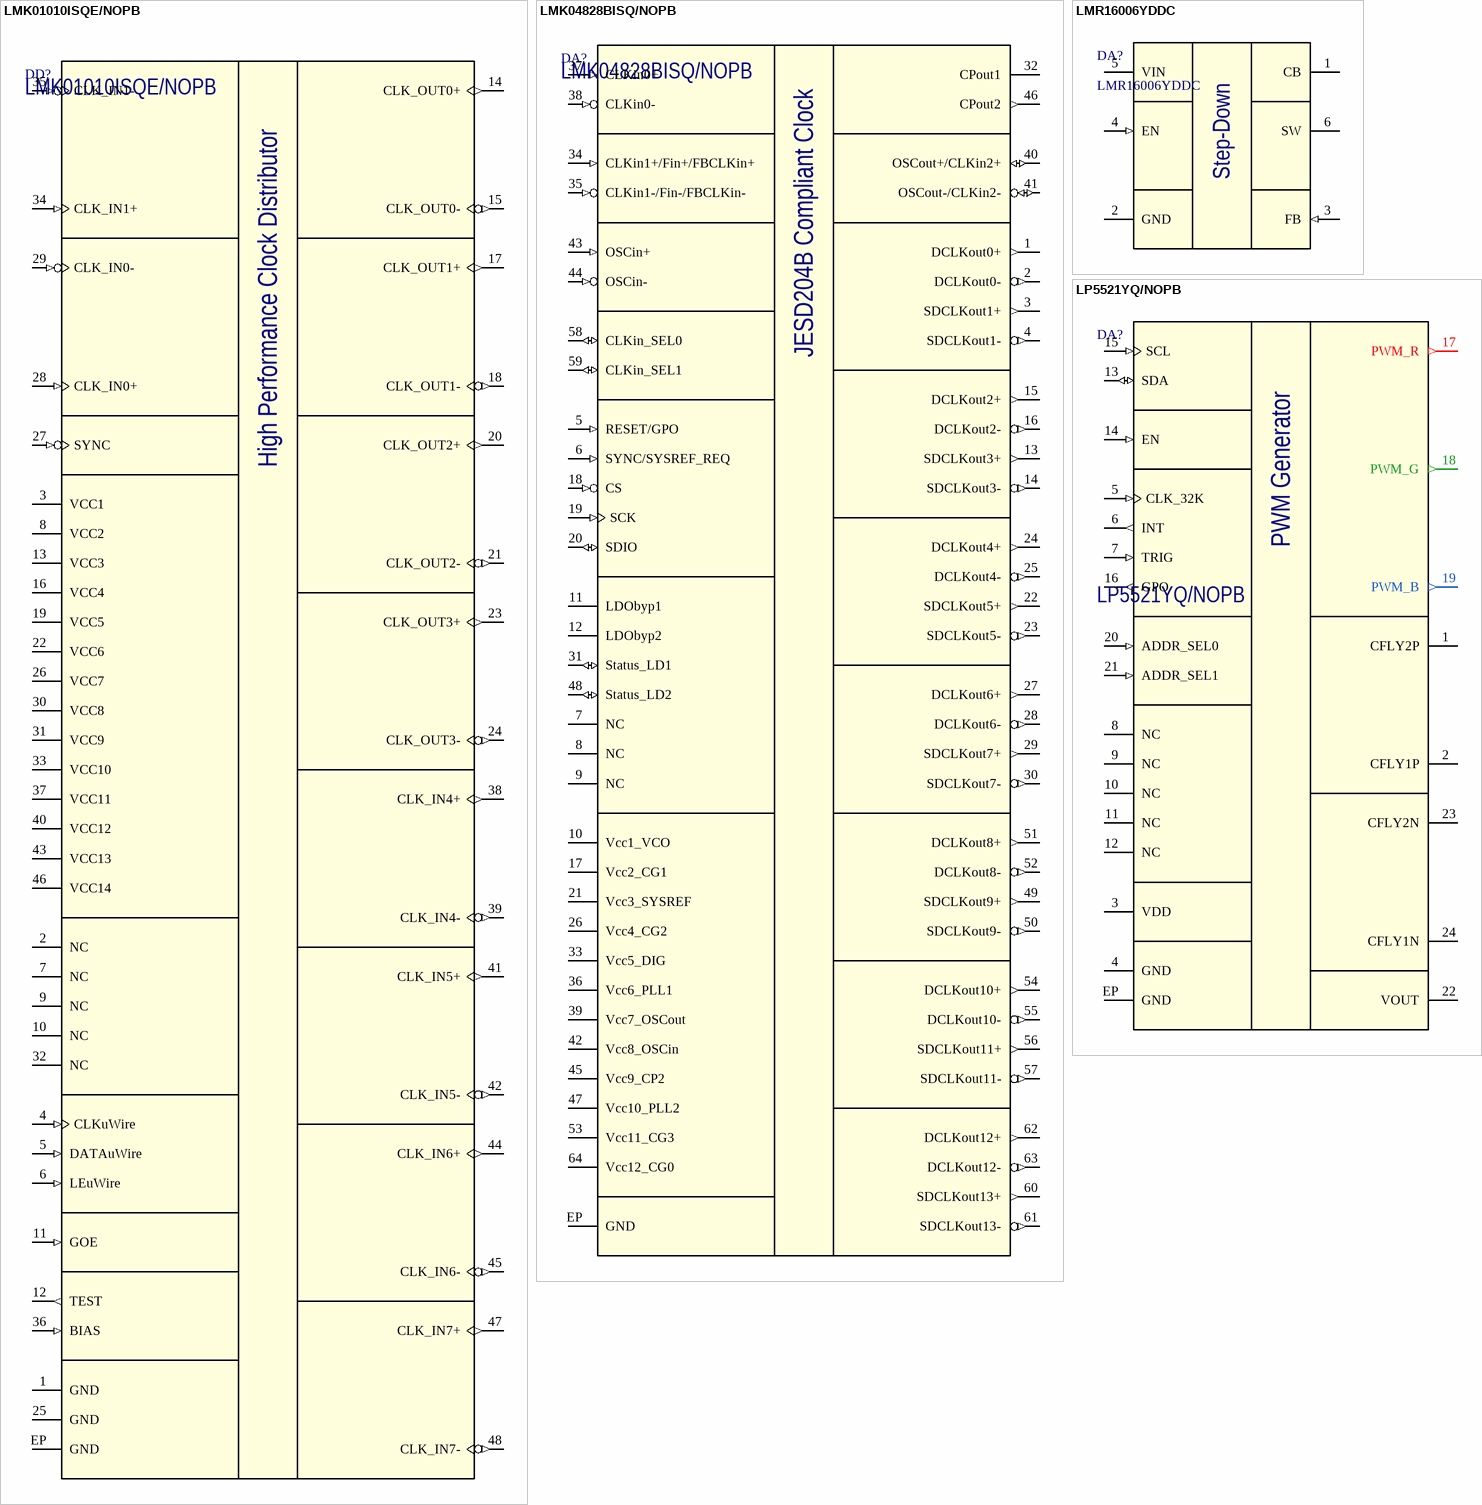
[diagram p9: symbols LMK01010ISQE/NOPB to LP5521YQ/NOPB]

## LMK01010ISQE/NOPB
designator DD?
High Performance Clock Buffer, Divider, and  Distributor; Manufacturer: Texas Instruments; Part Number: LMK01010ISQE/NOPB; Package: WQFN-48
footprint QFN48 (QFN, 48-Leads, Body 6.95x6.95mm, Pitch 0.50mm, Thermal Pad 5.60x5.60mm, IPC Medium Density)
pins: 1 GND (power), 2 NC (hiz), 3 VCC1 (power), 4 CLKuWire (in), 5 DATAuWire (in), 6 LEuWire (in), 7 NC (hiz), 8 VCC2 (power), 9 NC (hiz), 10 NC (hiz), 11 GOE (in), 12 TEST (out), 13 VCC3 (power), 14 CLK_OUT0+ (out), 15 CLK_OUT0- (out), 16 VCC4 (power), 17 CLK_OUT1+ (out), 18 CLK_OUT1- (out), 19 VCC5 (power), 20 CLK_OUT2+ (out), 21 CLK_OUT2- (out), 22 VCC6 (power), 23 CLK_OUT3+ (out), 24 CLK_OUT3- (out), 25 GND (power), 26 VCC7 (power), 27 SYNC (in), 28 CLK_IN0+ (in), 29 CLK_IN0- (in), 30 VCC8 (power), 31 VCC9 (power), 32 NC (hiz), 33 VCC10 (power), 34 CLK_IN1+ (in), 35 CLK_IN1- (in), 36 BIAS (in), 37 VCC11 (power), 38 CLK_IN4+ (out), 39 CLK_IN4- (out), 40 VCC12 (power), 41 CLK_IN5+ (out), 42 CLK_IN5- (out), 43 VCC13 (power), 44 CLK_IN6+ (out), 45 CLK_IN6- (out), 46 VCC14 (power), 47 CLK_IN7+ (out), 48 CLK_IN7- (out), EP GND (power)
text: High Performance Clock Distributor

## LMK04828BISQ/NOPB
designator DA?
JESD204B Compliant Clock Jitter Cleaner with Dual Loop PLLs; Manufacturer: Texas Instruments; Part Number: LMK04828BISQ/NOPB; Package: WQFN-64
footprint WQFN64 (QFN64 9mm x 9mm, 0.5mm pitch, EPAD 7.2x7.2mm)
pins: 1 DCLKout0+ (out), 2 DCLKout0- (out), 3 SDCLKout1+ (out), 4 SDCLKout1- (out), 5 RESET/GPO (in), 6 SYNC/SYSREF_REQ (in), 7 NC (hiz), 8 NC (hiz), 9 NC (hiz), 10 Vcc1_VCO (power), 11 LDObyp1, 12 LDObyp2, 13 SDCLKout3+ (out), 14 SDCLKout3- (out), 15 DCLKout2+ (out), 16 DCLKout2- (out), 17 Vcc2_CG1 (power), 18 CS (in), 19 SCK (in), 20 SDIO (io), 21 Vcc3_SYSREF (power), 22 SDCLKout5+ (out), 23 SDCLKout5- (out), 24 DCLKout4+ (out), 25 DCLKout4- (out), 26 Vcc4_CG2 (power), 27 DCLKout6+ (out), 28 DCLKout6- (out), 29 SDCLKout7+ (out), 30 SDCLKout7- (out), 31 Status_LD1 (io), 32 CPout1, 33 Vcc5_DIG (power), 34 CLKin1+/Fin+/FBCLKin+ (in), 35 CLKin1-/Fin-/FBCLKin- (in), 36 Vcc6_PLL1 (power), 37 CLKin0+ (in), 38 CLKin0- (in), 39 Vcc7_OSCout (power), 40 OSCout+/CLKin2+ (io), 41 OSCout-/CLKin2- (io), 42 Vcc8_OSCin (power), 43 OSCin+ (in), 44 OSCin- (in), 45 Vcc9_CP2 (power), 46 CPout2 (out), 47 Vcc10_PLL2 (power), 48 Status_LD2 (io), 49 SDCLKout9+ (out), 50 SDCLKout9- (out), 51 DCLKout8+ (out), 52 DCLKout8- (out), 53 Vcc11_CG3 (power), 54 DCLKout10+ (out), 55 DCLKout10- (out), 56 SDCLKout11+ (out), 57 SDCLKout11- (out), 58 CLKin_SEL0 (io), 59 CLKin_SEL1 (io), 60 SDCLKout13+ (out), 61 SDCLKout13- (out), 62 DCLKout12+ (out), 63 DCLKout12- (out), 64 Vcc12_CG0 (power), EP GND (power)
text: JESD204B Compliant Clock

## LMR16006YDDC
designator DA?
60 V 0.6 A Buck Regulators With High Efficiency ECO  Mode; Manufacturer: Texas Instruments; Part Number: LMR16006YDDC; Package: SOT23-6
footprint SOT23-6 (SOT23, 6-Leads, Body 2.90x2.80mm, Pitch 0.95mm, IPC Medium Density)
pins: 1 CB (power), 2 GND (power), 3 FB (in), 4 EN (in), 5 VIN (power), 6 SW (power)
text: Step-Down

## LP5521YQ/NOPB
designator DA?
Three-Channel RGB, White-LED Driver With Internal Program Memory and / Integrated Charge Pump; Manufacturer: Texas Instruments; Part Number: LP5521YQ/NOPB; Package: WQFN-24(4x5)
footprint WQFN-24(4x5) (WQFN-24 package 4x5mm with 0.5mm pitch)
pins: 1 CFLY2P, 2 CFLY1P, 3 VDD (power), 4 GND (power), 5 CLK_32K (in), 6 INT (out), 7 TRIG (in), 8 NC (hiz), 9 NC (hiz), 10 NC (hiz), 11 NC (hiz), 12 NC (hiz), 13 SDA (io), 14 EN (in), 15 SCL (in), 16 GPO (out), 17 PWM_R (out), 18 PWM_G (out), 19 PWM_B (out), 20 ADDR_SEL0 (in), 21 ADDR_SEL1 (in), 22 VOUT (power), 23 CFLY2N, 24 CFLY1N, EP GND (power)
text: PWM Generator

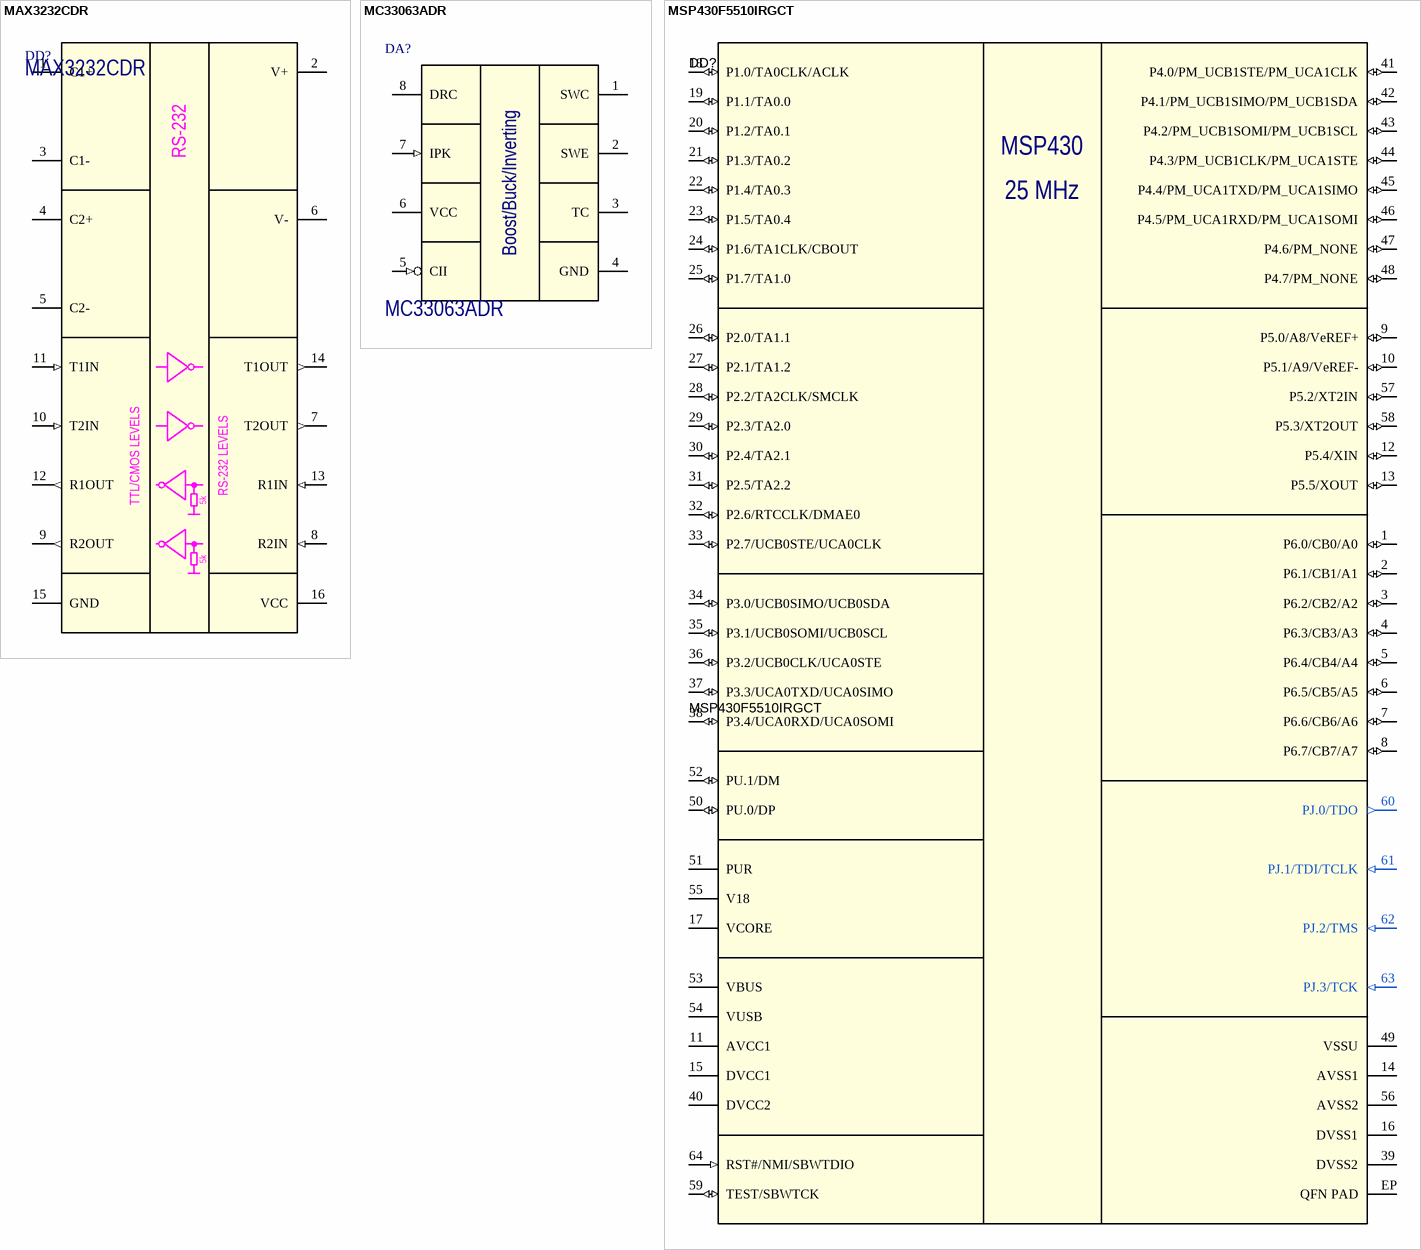
[diagram p10: symbols MAX3232CDR to MSP430F5510IRGCT]

## MAX3232CDR
designator DD?
3-V to 5.5-V Multichannel RS-232 Line Driver and Receiver; Manufacturer: Texas Instruments; Part Number: MAX3232CDR; Package: SOIC-16
footprint SOIC-16 (package SOIC-16, 150 mil)
pins: 1 C1+, 2 V+, 3 C1-, 4 C2+, 5 C2-, 6 V-, 7 T2OUT (out), 8 R2IN (in), 9 R2OUT (out), 10 T2IN (in), 11 T1IN (in), 12 R1OUT (out), 13 R1IN (in), 14 T1OUT (out), 15 GND (power), 16 VCC (power)
text: RS-232; TTL/CMOS LEVELS; RS-232 LEVELS; 5k

## MC33063ADR
designator DA?
MC3x063A 1.5-A Peak Boost/Buck/Inverting Switching Regulators; Manufacturer: Texas Instruments; Part Number: MC33063ADR; Package: SOIC-8
footprint SOIC-8 (SOIC-8 package)
pins: 1 SWC (oc), 2 SWE (oe), 3 TC, 4 GND (power), 5 CII (in), 6 VCC (power), 7 IPK (in), 8 DRC (oc)
text: Boost/Buck/Inverting

## MSP430F5510IRGCT
designator DD?
25 MHz Mixed Signal Microcontroller with 32 KB Flash, 4096 B SRAM and 47 GPIOs, -40 to 85 degC, 64-pin QFN (RGC); Manufacturer: Texas Instruments; ComponentLink1Description: Manufacturer URL; ComponentLink1URL: http://www.ti.com/; ComponentLink2Description: Datasheet; ComponentLink2URL: http://www.ti.com/general/docs/lit/getliterature.tsp?genericPartNumber=MSP430F5528&fileType=pdf; Part Number: MSP430F5510IRGCT; Package: QFN-64
footprint QFN64 (QFN64 9mm x 9mm, 0.5mm pitch)
pins: 1 P6.0/CB0/A0 (io), 2 P6.1/CB1/A1 (io), 3 P6.2/CB2/A2 (io), 4 P6.3/CB3/A3 (io), 5 P6.4/CB4/A4 (io), 6 P6.5/CB5/A5 (io), 7 P6.6/CB6/A6 (io), 8 P6.7/CB7/A7 (io), 9 P5.0/A8/VeREF+ (io), 10 P5.1/A9/VeREF- (io), 11 AVCC1 (power), 12 P5.4/XIN (io), 13 P5.5/XOUT (io), 14 AVSS1 (power), 15 DVCC1 (power), 16 DVSS1 (power), 17 VCORE, 18 P1.0/TA0CLK/ACLK (io), 19 P1.1/TA0.0 (io), 20 P1.2/TA0.1 (io), 21 P1.3/TA0.2 (io), 22 P1.4/TA0.3 (io), 23 P1.5/TA0.4 (io), 24 P1.6/TA1CLK/CBOUT (io), 25 P1.7/TA1.0 (io), 26 P2.0/TA1.1 (io), 27 P2.1/TA1.2 (io), 28 P2.2/TA2CLK/SMCLK (io), 29 P2.3/TA2.0 (io), 30 P2.4/TA2.1 (io), 31 P2.5/TA2.2 (io), 32 P2.6/RTCCLK/DMAE0 (io), 33 P2.7/UCB0STE/UCA0CLK (io), 34 P3.0/UCB0SIMO/UCB0SDA (io), 35 P3.1/UCB0SOMI/UCB0SCL (io), 36 P3.2/UCB0CLK/UCA0STE (io), 37 P3.3/UCA0TXD/UCA0SIMO (io), 38 P3.4/UCA0RXD/UCA0SOMI (io), 39 DVSS2 (power), 40 DVCC2 (power), 41 P4.0/PM_UCB1STE/PM_UCA1CLK (io), 42 P4.1/PM_UCB1SIMO/PM_UCB1SDA (io), 43 P4.2/PM_UCB1SOMI/PM_UCB1SCL (io), 44 P4.3/PM_UCB1CLK/PM_UCA1STE (io), 45 P4.4/PM_UCA1TXD/PM_UCA1SIMO (io), 46 P4.5/PM_UCA1RXD/PM_UCA1SOMI (io), 47 P4.6/PM_NONE (io), 48 P4.7/PM_NONE (io), 49 VSSU (power), 50 PU.0/DP (io), 51 PUR, 52 PU.1/DM (io), 53 VBUS (power), 54 VUSB (power), 55 V18 (power), 56 AVSS2 (power), 57 P5.2/XT2IN (io), 58 P5.3/XT2OUT (io), 59 TEST/SBWTCK (io), 60 PJ.0/TDO (out), 61 PJ.1/TDI/TCLK (in), 62 PJ.2/TMS (in), 63 PJ.3/TCK (in), 64 RST#/NMI/SBWTDIO (in), EP QFN PAD (power) "QFN package pad connection to VSS recommended."
text: MSP430; 25 MHz

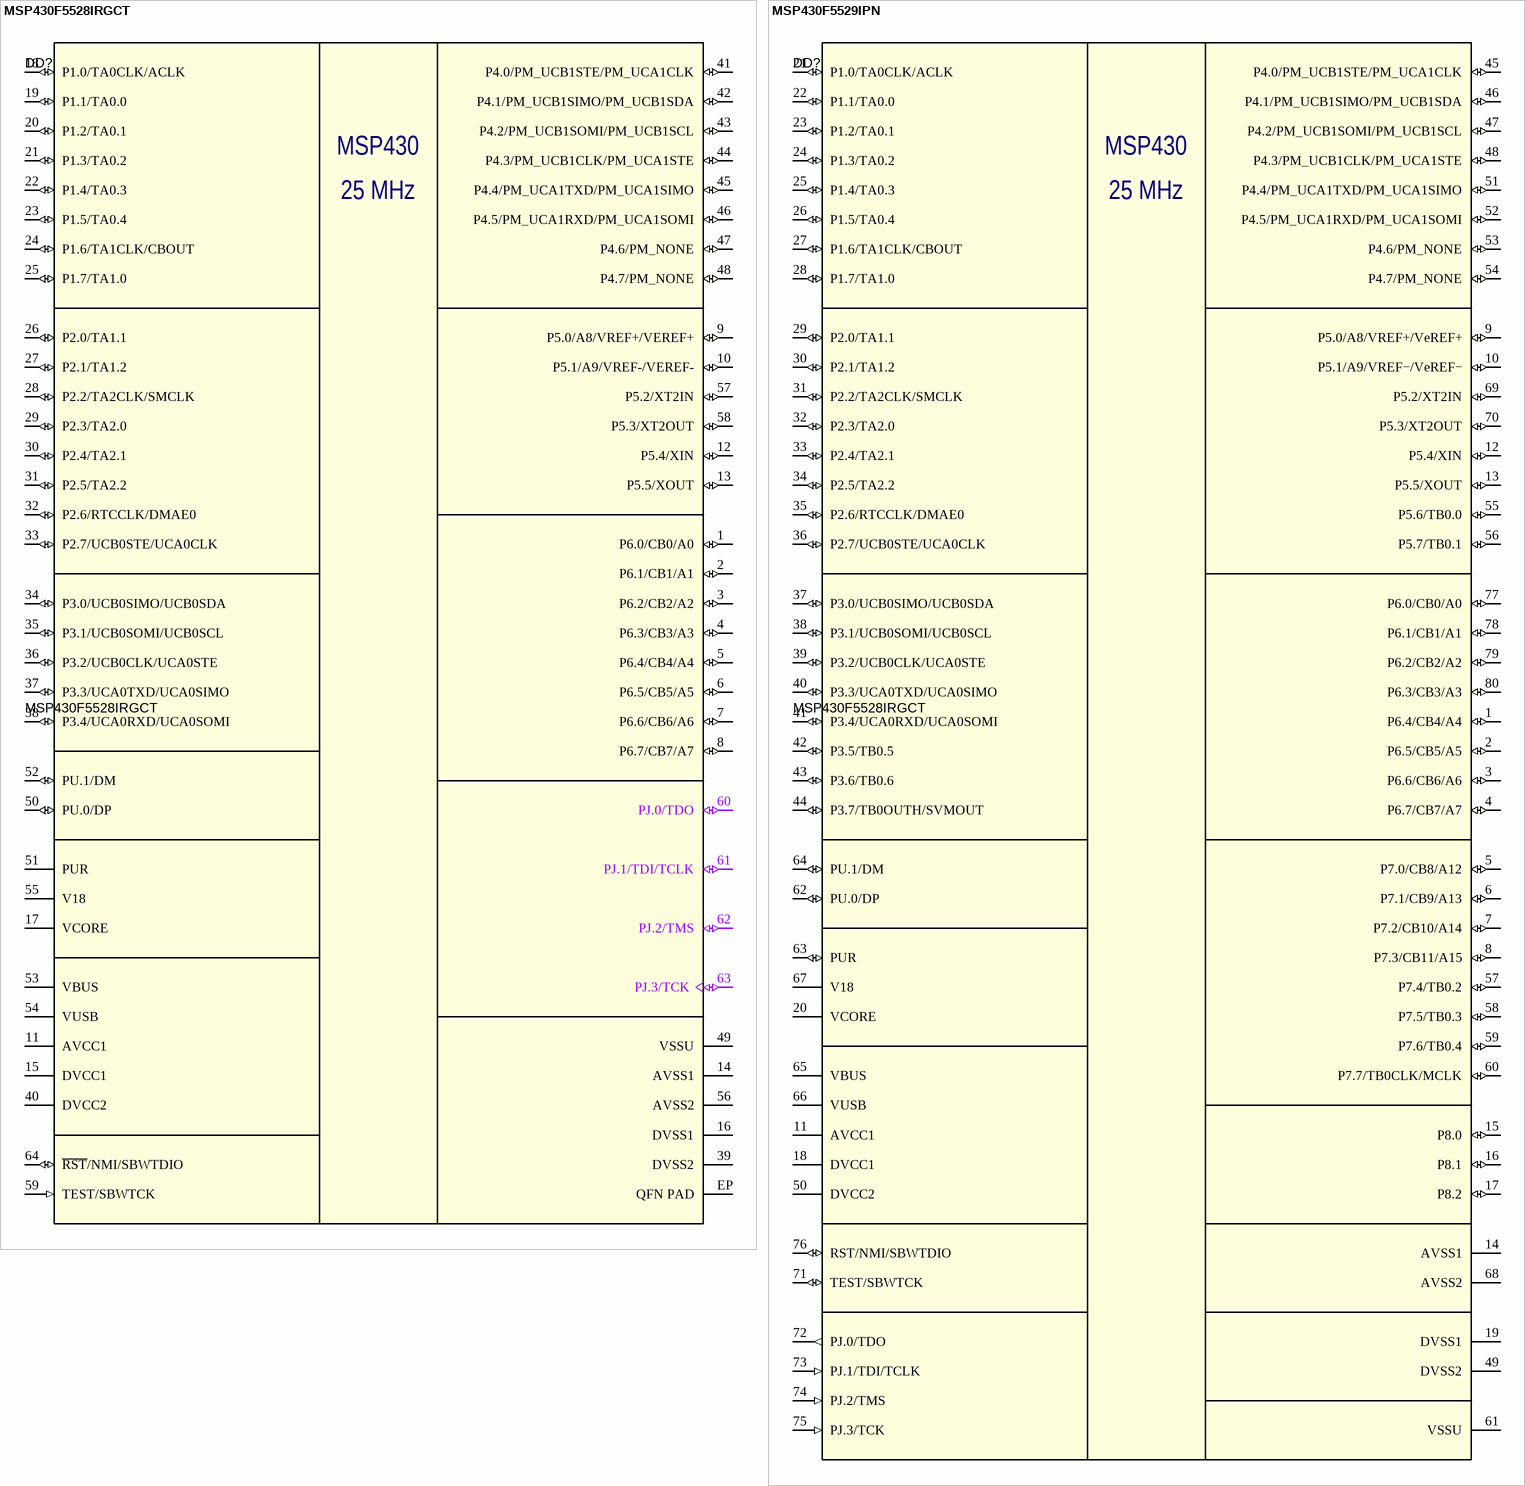
[diagram p11: symbols MSP430F5528IRGCT to MSP430F5529IPN]